# Altium schematic symbol library 10cx105.SchLib: 4 symbols (part 1 of 2)
Pins are listed as number, name and electrical type; pins without a type are passive.

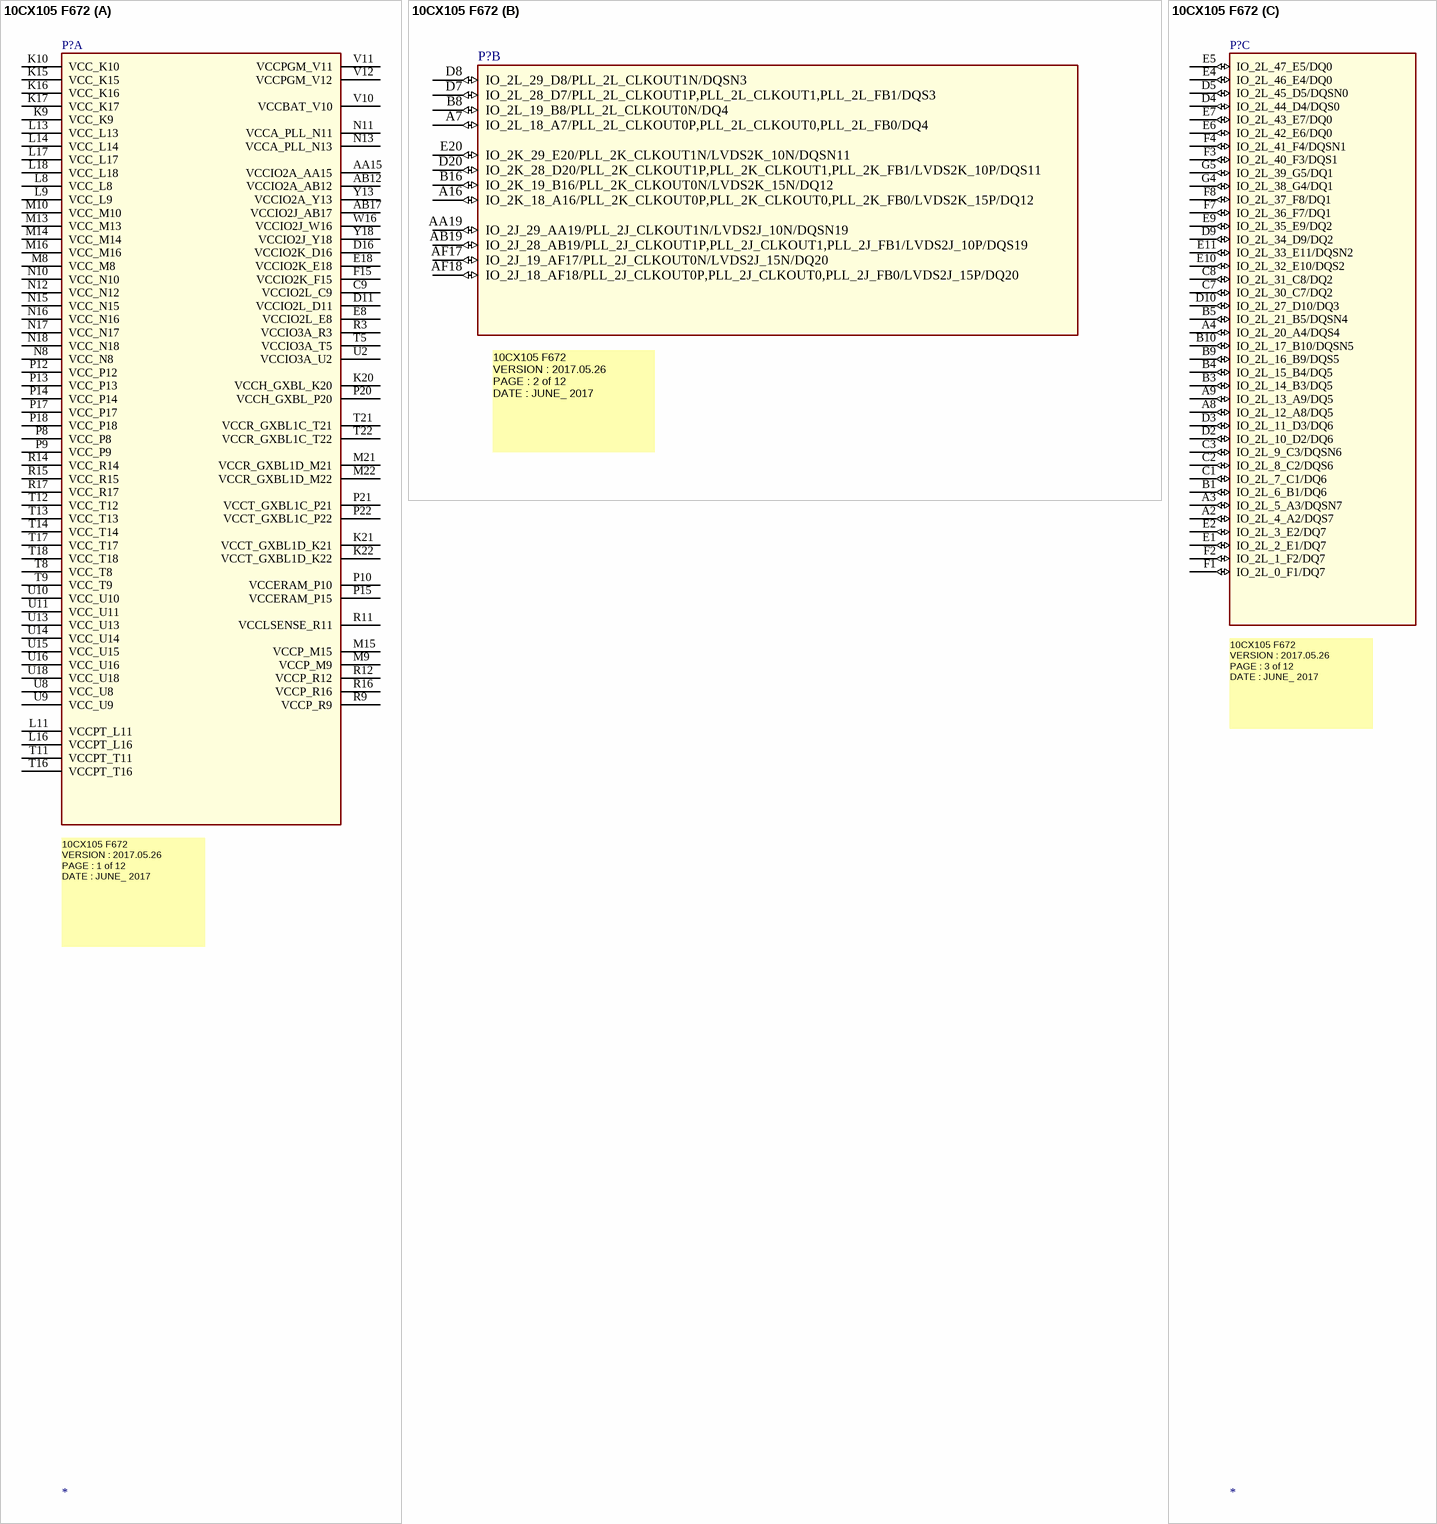
[diagram p0: symbol 10CX105 F672]

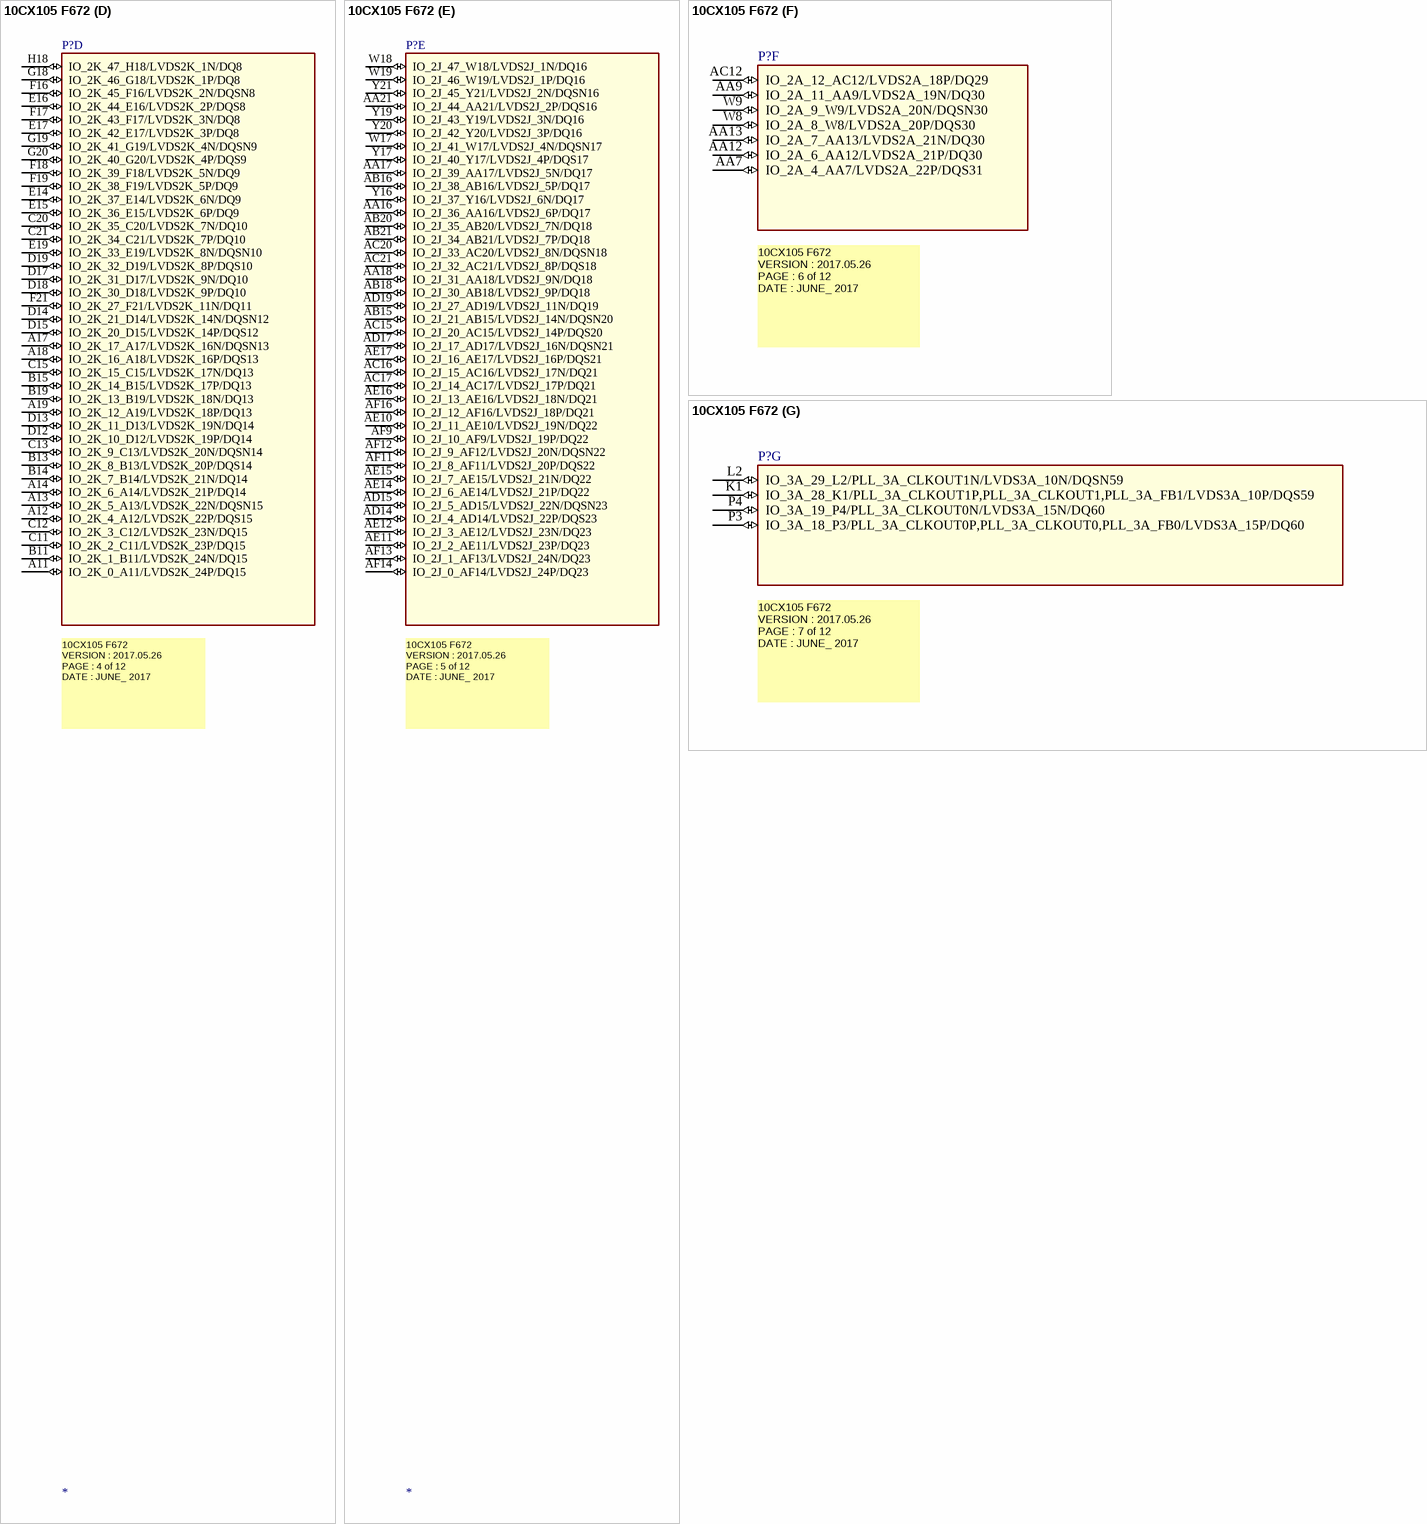
[diagram p1: symbol 10CX105 F672]

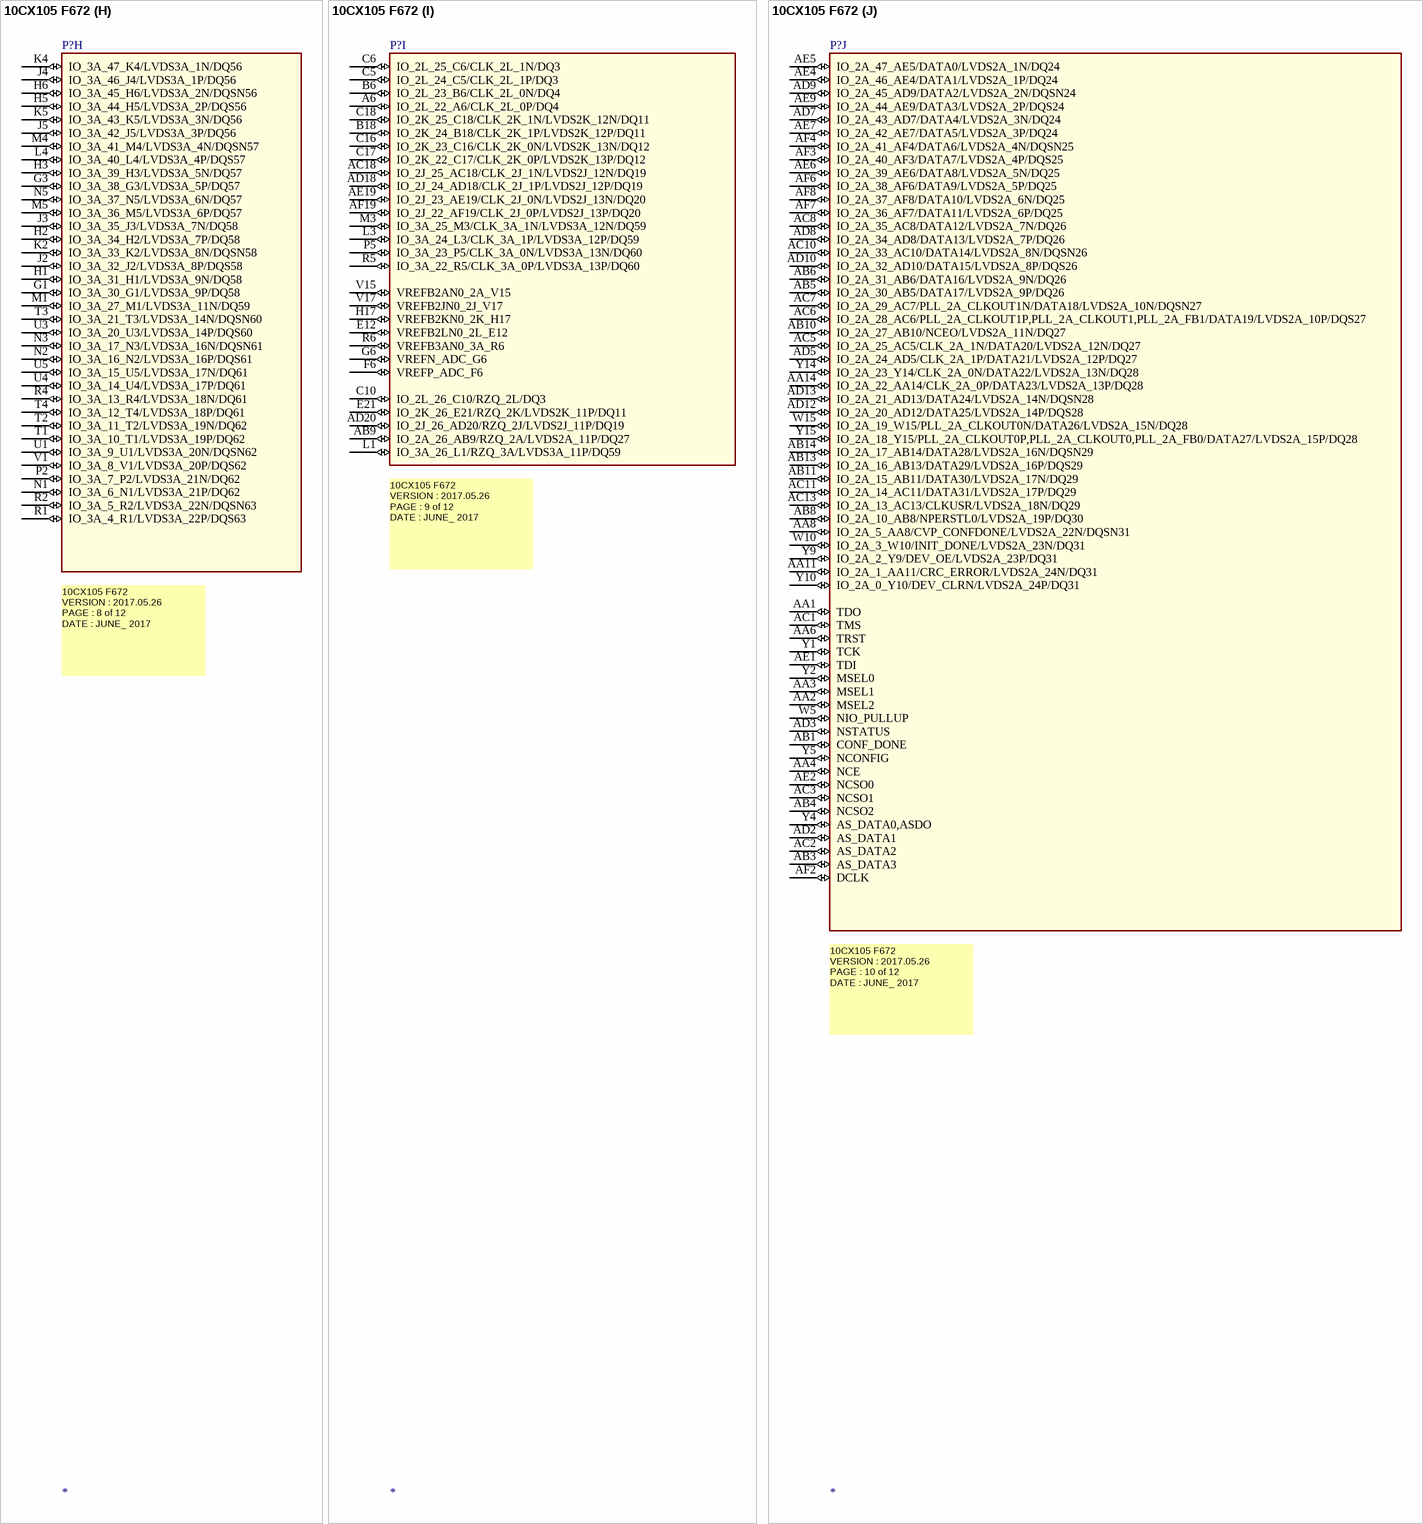
[diagram p2: symbol 10CX105 F672]

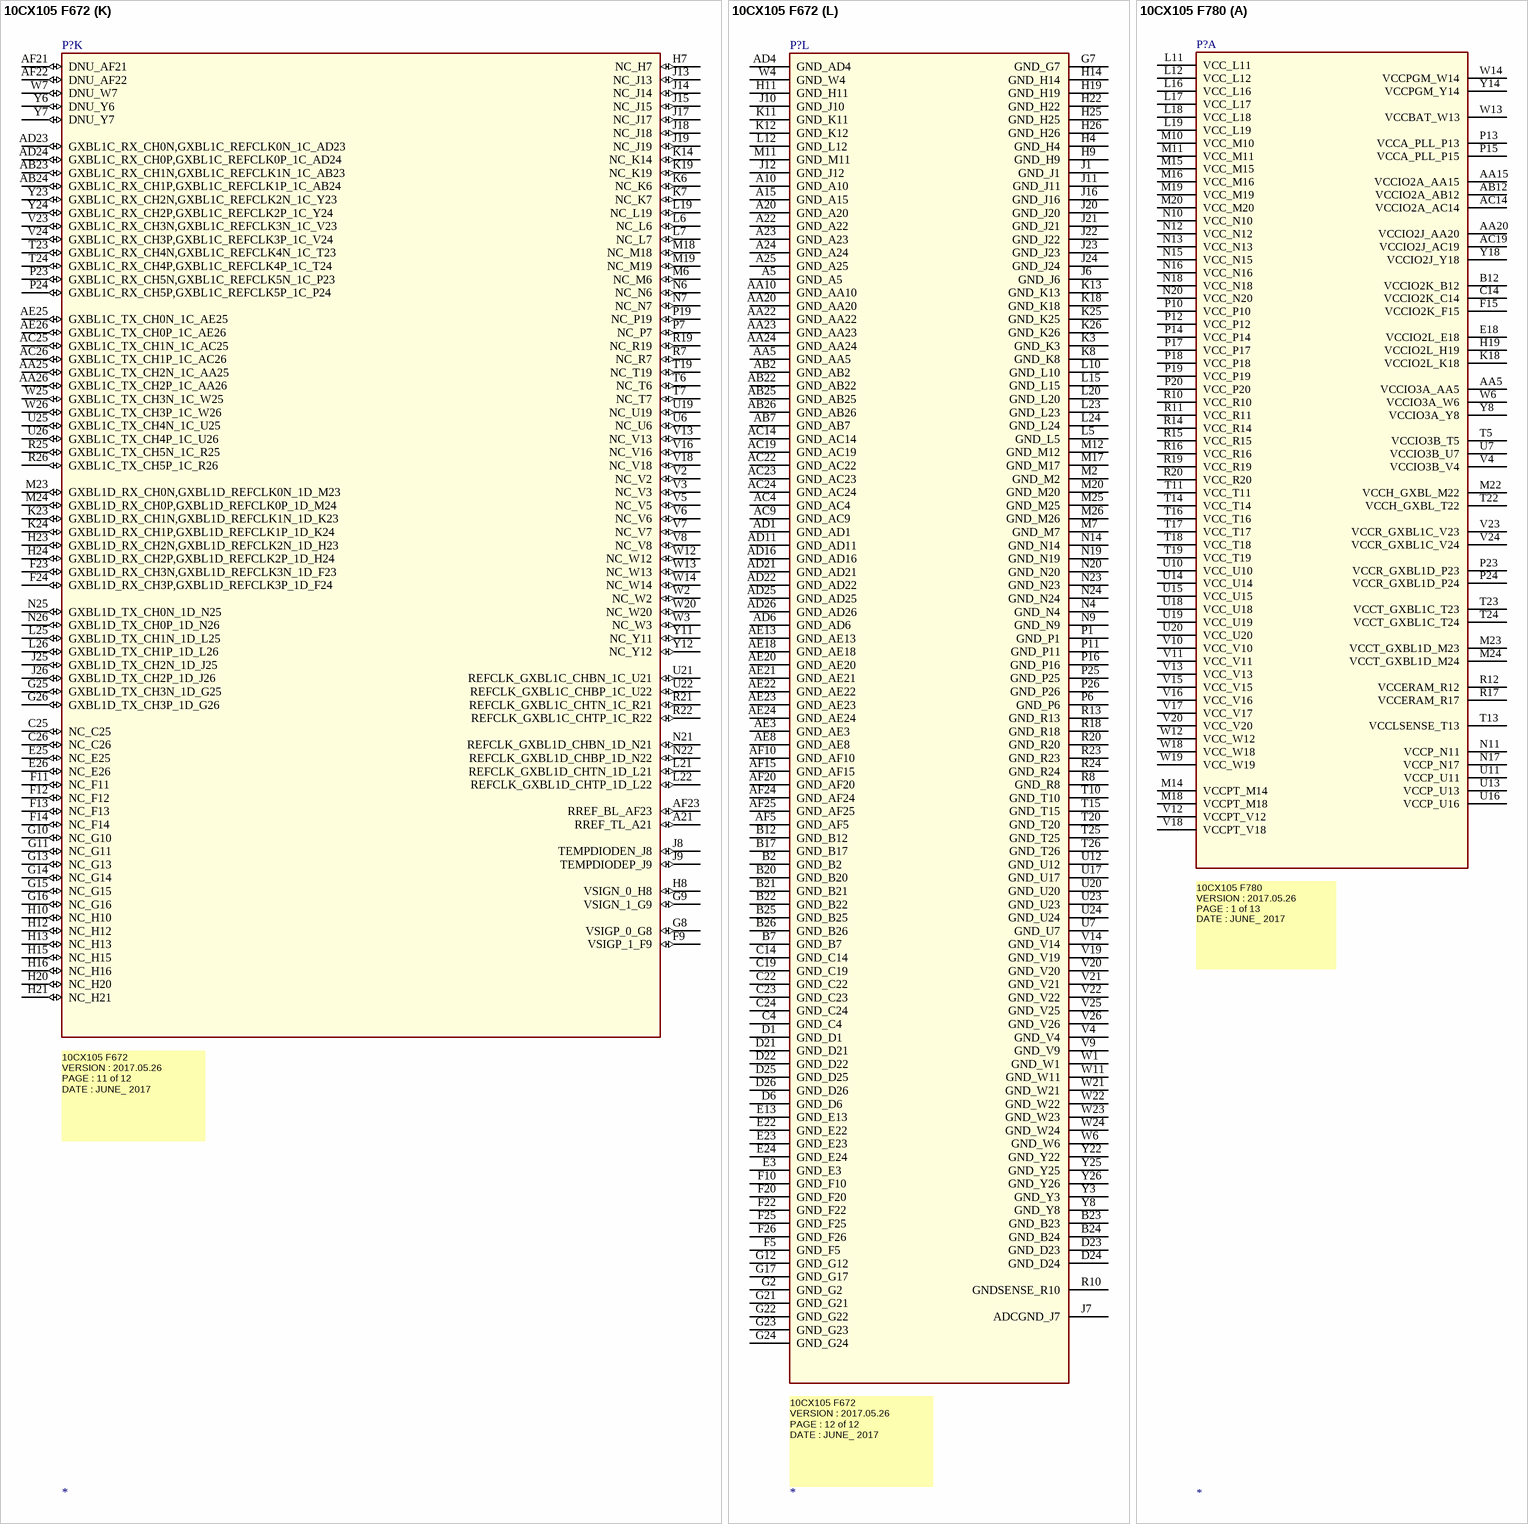
[diagram p3: symbols 10CX105 F672 to 10CX105 F780]

## 10CX105 F672
designator P?
SPLIT_INST: TRUE; SWAP_INFO: (S1+S2+S3+S4+S5+S6+S7+S8+S9+S10+S11+S12)
part A pins: AA15 VCCIO2A_AA15 (power), AB12 VCCIO2A_AB12 (power), AB17 VCCIO2J_AB17 (power), C9 VCCIO2L_C9 (power), D11 VCCIO2L_D11 (power), D16 VCCIO2K_D16 (power), E8 VCCIO2L_E8 (power), E18 VCCIO2K_E18 (power), F15 VCCIO2K_F15 (power), K9 VCC_K9 (power), K10 VCC_K10 (power), K15 VCC_K15 (power), K16 VCC_K16 (power), K17 VCC_K17 (power), K20 VCCH_GXBL_K20 (power), K21 VCCT_GXBL1D_K21 (power), K22 VCCT_GXBL1D_K22 (power), L8 VCC_L8 (power), L9 VCC_L9 (power), L11 VCCPT_L11 (power), L13 VCC_L13 (power), L14 VCC_L14 (power), L16 VCCPT_L16 (power), L17 VCC_L17 (power), L18 VCC_L18 (power), M8 VCC_M8 (power), M9 VCCP_M9 (power), M10 VCC_M10 (power), M13 VCC_M13 (power), M14 VCC_M14 (power), M15 VCCP_M15 (power), M16 VCC_M16 (power), M21 VCCR_GXBL1D_M21 (power), M22 VCCR_GXBL1D_M22 (power), N8 VCC_N8 (power), N10 VCC_N10 (power), N11 VCCA_PLL_N11 (power), N12 VCC_N12 (power), N13 VCCA_PLL_N13 (power), N15 VCC_N15 (power), N16 VCC_N16 (power), N17 VCC_N17 (power), N18 VCC_N18 (power), P8 VCC_P8 (power), P9 VCC_P9 (power), P10 VCCERAM_P10 (power), P12 VCC_P12 (power), P13 VCC_P13 (power), P14 VCC_P14 (power), P15 VCCERAM_P15 (power), P17 VCC_P17 (power), P18 VCC_P18 (power), P20 VCCH_GXBL_P20 (power), P21 VCCT_GXBL1C_P21 (power), P22 VCCT_GXBL1C_P22 (power), R3 VCCIO3A_R3 (power), R9 VCCP_R9 (power), R11 VCCLSENSE_R11 (power), R12 VCCP_R12 (power), R14 VCC_R14 (power), R15 VCC_R15 (power), R16 VCCP_R16 (power), R17 VCC_R17 (power), T5 VCCIO3A_T5 (power), T8 VCC_T8 (power), T9 VCC_T9 (power), T11 VCCPT_T11 (power), T12 VCC_T12 (power), T13 VCC_T13 (power), T14 VCC_T14 (power), T16 VCCPT_T16 (power), T17 VCC_T17 (power), T18 VCC_T18 (power), T21 VCCR_GXBL1C_T21 (power), T22 VCCR_GXBL1C_T22 (power), U2 VCCIO3A_U2 (power), U8 VCC_U8 (power), U9 VCC_U9 (power), U10 VCC_U10 (power), U11 VCC_U11 (power), U13 VCC_U13 (power), U14 VCC_U14 (power), U15 VCC_U15 (power), U16 VCC_U16 (power), U18 VCC_U18 (power), V10 VCCBAT_V10 (power), V11 VCCPGM_V11 (power), V12 VCCPGM_V12 (power), W16 VCCIO2J_W16 (power), Y13 VCCIO2A_Y13 (power), Y18 VCCIO2J_Y18 (power)
part B pins: A7 IO_2L_18_A7/PLL_2L_CLKOUT0P,PLL_2L_CLKOUT0,PLL_2L_FB0/DQ4 (io), A16 IO_2K_18_A16/PLL_2K_CLKOUT0P,PLL_2K_CLKOUT0,PLL_2K_FB0/LVDS2K_15P/DQ12 (io), AA19 IO_2J_29_AA19/PLL_2J_CLKOUT1N/LVDS2J_10N/DQSN19 (io), AB19 IO_2J_28_AB19/PLL_2J_CLKOUT1P,PLL_2J_CLKOUT1,PLL_2J_FB1/LVDS2J_10P/DQS19 (io), AF17 IO_2J_19_AF17/PLL_2J_CLKOUT0N/LVDS2J_15N/DQ20 (io), AF18 IO_2J_18_AF18/PLL_2J_CLKOUT0P,PLL_2J_CLKOUT0,PLL_2J_FB0/LVDS2J_15P/DQ20 (io), B8 IO_2L_19_B8/PLL_2L_CLKOUT0N/DQ4 (io), B16 IO_2K_19_B16/PLL_2K_CLKOUT0N/LVDS2K_15N/DQ12 (io), D7 IO_2L_28_D7/PLL_2L_CLKOUT1P,PLL_2L_CLKOUT1,PLL_2L_FB1/DQS3 (io), D8 IO_2L_29_D8/PLL_2L_CLKOUT1N/DQSN3 (io), D20 IO_2K_28_D20/PLL_2K_CLKOUT1P,PLL_2K_CLKOUT1,PLL_2K_FB1/LVDS2K_10P/DQS11 (io), E20 IO_2K_29_E20/PLL_2K_CLKOUT1N/LVDS2K_10N/DQSN11 (io)
part C pins: A2 IO_2L_4_A2/DQS7 (io), A3 IO_2L_5_A3/DQSN7 (io), A4 IO_2L_20_A4/DQS4 (io), A8 IO_2L_12_A8/DQ5 (io), A9 IO_2L_13_A9/DQ5 (io), B1 IO_2L_6_B1/DQ6 (io), B3 IO_2L_14_B3/DQ5 (io), B4 IO_2L_15_B4/DQ5 (io), B5 IO_2L_21_B5/DQSN4 (io), B9 IO_2L_16_B9/DQS5 (io), B10 IO_2L_17_B10/DQSN5 (io), C1 IO_2L_7_C1/DQ6 (io), C2 IO_2L_8_C2/DQS6 (io), C3 IO_2L_9_C3/DQSN6 (io), C7 IO_2L_30_C7/DQ2 (io), C8 IO_2L_31_C8/DQ2 (io), D2 IO_2L_10_D2/DQ6 (io), D3 IO_2L_11_D3/DQ6 (io), D4 IO_2L_44_D4/DQS0 (io), D5 IO_2L_45_D5/DQSN0 (io), D9 IO_2L_34_D9/DQ2 (io), D10 IO_2L_27_D10/DQ3 (io), E1 IO_2L_2_E1/DQ7 (io), E2 IO_2L_3_E2/DQ7 (io), E4 IO_2L_46_E4/DQ0 (io), E5 IO_2L_47_E5/DQ0 (io), E6 IO_2L_42_E6/DQ0 (io), E7 IO_2L_43_E7/DQ0 (io), E9 IO_2L_35_E9/DQ2 (io), E10 IO_2L_32_E10/DQS2 (io), E11 IO_2L_33_E11/DQSN2 (io), F1 IO_2L_0_F1/DQ7 (io), F2 IO_2L_1_F2/DQ7 (io), F3 IO_2L_40_F3/DQS1 (io), F4 IO_2L_41_F4/DQSN1 (io), F7 IO_2L_36_F7/DQ1 (io), F8 IO_2L_37_F8/DQ1 (io), G4 IO_2L_38_G4/DQ1 (io), G5 IO_2L_39_G5/DQ1 (io)
part D pins: A11 IO_2K_0_A11/LVDS2K_24P/DQ15 (io), A12 IO_2K_4_A12/LVDS2K_22P/DQS15 (io), A13 IO_2K_5_A13/LVDS2K_22N/DQSN15 (io), A14 IO_2K_6_A14/LVDS2K_21P/DQ14 (io), A17 IO_2K_17_A17/LVDS2K_16N/DQSN13 (io), A18 IO_2K_16_A18/LVDS2K_16P/DQS13 (io), A19 IO_2K_12_A19/LVDS2K_18P/DQ13 (io), B11 IO_2K_1_B11/LVDS2K_24N/DQ15 (io), B13 IO_2K_8_B13/LVDS2K_20P/DQS14 (io), B14 IO_2K_7_B14/LVDS2K_21N/DQ14 (io), B15 IO_2K_14_B15/LVDS2K_17P/DQ13 (io), B19 IO_2K_13_B19/LVDS2K_18N/DQ13 (io), C11 IO_2K_2_C11/LVDS2K_23P/DQ15 (io), C12 IO_2K_3_C12/LVDS2K_23N/DQ15 (io), C13 IO_2K_9_C13/LVDS2K_20N/DQSN14 (io), C15 IO_2K_15_C15/LVDS2K_17N/DQ13 (io), C20 IO_2K_35_C20/LVDS2K_7N/DQ10 (io), C21 IO_2K_34_C21/LVDS2K_7P/DQ10 (io), D12 IO_2K_10_D12/LVDS2K_19P/DQ14 (io), D13 IO_2K_11_D13/LVDS2K_19N/DQ14 (io), D14 IO_2K_21_D14/LVDS2K_14N/DQSN12 (io), D15 IO_2K_20_D15/LVDS2K_14P/DQS12 (io), D17 IO_2K_31_D17/LVDS2K_9N/DQ10 (io), D18 IO_2K_30_D18/LVDS2K_9P/DQ10 (io), D19 IO_2K_32_D19/LVDS2K_8P/DQS10 (io), E14 IO_2K_37_E14/LVDS2K_6N/DQ9 (io), E15 IO_2K_36_E15/LVDS2K_6P/DQ9 (io), E16 IO_2K_44_E16/LVDS2K_2P/DQS8 (io), E17 IO_2K_42_E17/LVDS2K_3P/DQ8 (io), E19 IO_2K_33_E19/LVDS2K_8N/DQSN10 (io), F16 IO_2K_45_F16/LVDS2K_2N/DQSN8 (io), F17 IO_2K_43_F17/LVDS2K_3N/DQ8 (io), F18 IO_2K_39_F18/LVDS2K_5N/DQ9 (io), F19 IO_2K_38_F19/LVDS2K_5P/DQ9 (io), F21 IO_2K_27_F21/LVDS2K_11N/DQ11 (io), G18 IO_2K_46_G18/LVDS2K_1P/DQ8 (io), G19 IO_2K_41_G19/LVDS2K_4N/DQSN9 (io), G20 IO_2K_40_G20/LVDS2K_4P/DQS9 (io), H18 IO_2K_47_H18/LVDS2K_1N/DQ8 (io)
part E pins: AA16 IO_2J_36_AA16/LVDS2J_6P/DQ17 (io), AA17 IO_2J_39_AA17/LVDS2J_5N/DQ17 (io), AA18 IO_2J_31_AA18/LVDS2J_9N/DQ18 (io), AA21 IO_2J_44_AA21/LVDS2J_2P/DQS16 (io), AB15 IO_2J_21_AB15/LVDS2J_14N/DQSN20 (io), AB16 IO_2J_38_AB16/LVDS2J_5P/DQ17 (io), AB18 IO_2J_30_AB18/LVDS2J_9P/DQ18 (io), AB20 IO_2J_35_AB20/LVDS2J_7N/DQ18 (io), AB21 IO_2J_34_AB21/LVDS2J_7P/DQ18 (io), AC15 IO_2J_20_AC15/LVDS2J_14P/DQS20 (io), AC16 IO_2J_15_AC16/LVDS2J_17N/DQ21 (io), AC17 IO_2J_14_AC17/LVDS2J_17P/DQ21 (io), AC20 IO_2J_33_AC20/LVDS2J_8N/DQSN18 (io), AC21 IO_2J_32_AC21/LVDS2J_8P/DQS18 (io), AD14 IO_2J_4_AD14/LVDS2J_22P/DQS23 (io), AD15 IO_2J_5_AD15/LVDS2J_22N/DQSN23 (io), AD17 IO_2J_17_AD17/LVDS2J_16N/DQSN21 (io), AD19 IO_2J_27_AD19/LVDS2J_11N/DQ19 (io), AE10 IO_2J_11_AE10/LVDS2J_19N/DQ22 (io), AE11 IO_2J_2_AE11/LVDS2J_23P/DQ23 (io), AE12 IO_2J_3_AE12/LVDS2J_23N/DQ23 (io), AE14 IO_2J_6_AE14/LVDS2J_21P/DQ22 (io), AE15 IO_2J_7_AE15/LVDS2J_21N/DQ22 (io), AE16 IO_2J_13_AE16/LVDS2J_18N/DQ21 (io), AE17 IO_2J_16_AE17/LVDS2J_16P/DQS21 (io), AF9 IO_2J_10_AF9/LVDS2J_19P/DQ22 (io), AF11 IO_2J_8_AF11/LVDS2J_20P/DQS22 (io), AF12 IO_2J_9_AF12/LVDS2J_20N/DQSN22 (io), AF13 IO_2J_1_AF13/LVDS2J_24N/DQ23 (io), AF14 IO_2J_0_AF14/LVDS2J_24P/DQ23 (io), AF16 IO_2J_12_AF16/LVDS2J_18P/DQ21 (io), W17 IO_2J_41_W17/LVDS2J_4N/DQSN17 (io), W18 IO_2J_47_W18/LVDS2J_1N/DQ16 (io), W19 IO_2J_46_W19/LVDS2J_1P/DQ16 (io), Y16 IO_2J_37_Y16/LVDS2J_6N/DQ17 (io), Y17 IO_2J_40_Y17/LVDS2J_4P/DQS17 (io), Y19 IO_2J_43_Y19/LVDS2J_3N/DQ16 (io), Y20 IO_2J_42_Y20/LVDS2J_3P/DQ16 (io), Y21 IO_2J_45_Y21/LVDS2J_2N/DQSN16 (io)
part F pins: AA7 IO_2A_4_AA7/LVDS2A_22P/DQS31 (io), AA9 IO_2A_11_AA9/LVDS2A_19N/DQ30 (io), AA12 IO_2A_6_AA12/LVDS2A_21P/DQ30 (io), AA13 IO_2A_7_AA13/LVDS2A_21N/DQ30 (io), AC12 IO_2A_12_AC12/LVDS2A_18P/DQ29 (io), W8 IO_2A_8_W8/LVDS2A_20P/DQS30 (io), W9 IO_2A_9_W9/LVDS2A_20N/DQSN30 (io)
part G pins: K1 IO_3A_28_K1/PLL_3A_CLKOUT1P,PLL_3A_CLKOUT1,PLL_3A_FB1/LVDS3A_10P/DQS59 (io), L2 IO_3A_29_L2/PLL_3A_CLKOUT1N/LVDS3A_10N/DQSN59 (io), P3 IO_3A_18_P3/PLL_3A_CLKOUT0P,PLL_3A_CLKOUT0,PLL_3A_FB0/LVDS3A_15P/DQ60 (io), P4 IO_3A_19_P4/PLL_3A_CLKOUT0N/LVDS3A_15N/DQ60 (io)
part H pins: G1 IO_3A_30_G1/LVDS3A_9P/DQ58 (io), G3 IO_3A_38_G3/LVDS3A_5P/DQ57 (io), H1 IO_3A_31_H1/LVDS3A_9N/DQ58 (io), H2 IO_3A_34_H2/LVDS3A_7P/DQ58 (io), H3 IO_3A_39_H3/LVDS3A_5N/DQ57 (io), H5 IO_3A_44_H5/LVDS3A_2P/DQS56 (io), H6 IO_3A_45_H6/LVDS3A_2N/DQSN56 (io), J2 IO_3A_32_J2/LVDS3A_8P/DQS58 (io), J3 IO_3A_35_J3/LVDS3A_7N/DQ58 (io), J4 IO_3A_46_J4/LVDS3A_1P/DQ56 (io), J5 IO_3A_42_J5/LVDS3A_3P/DQ56 (io), K2 IO_3A_33_K2/LVDS3A_8N/DQSN58 (io), K4 IO_3A_47_K4/LVDS3A_1N/DQ56 (io), K5 IO_3A_43_K5/LVDS3A_3N/DQ56 (io), L4 IO_3A_40_L4/LVDS3A_4P/DQS57 (io), M1 IO_3A_27_M1/LVDS3A_11N/DQ59 (io), M4 IO_3A_41_M4/LVDS3A_4N/DQSN57 (io), M5 IO_3A_36_M5/LVDS3A_6P/DQ57 (io), N1 IO_3A_6_N1/LVDS3A_21P/DQ62 (io), N2 IO_3A_16_N2/LVDS3A_16P/DQS61 (io), N3 IO_3A_17_N3/LVDS3A_16N/DQSN61 (io), N5 IO_3A_37_N5/LVDS3A_6N/DQ57 (io), P2 IO_3A_7_P2/LVDS3A_21N/DQ62 (io), R1 IO_3A_4_R1/LVDS3A_22P/DQS63 (io), R2 IO_3A_5_R2/LVDS3A_22N/DQSN63 (io), R4 IO_3A_13_R4/LVDS3A_18N/DQ61 (io), T1 IO_3A_10_T1/LVDS3A_19P/DQ62 (io), T2 IO_3A_11_T2/LVDS3A_19N/DQ62 (io), T3 IO_3A_21_T3/LVDS3A_14N/DQSN60 (io), T4 IO_3A_12_T4/LVDS3A_18P/DQ61 (io), U1 IO_3A_9_U1/LVDS3A_20N/DQSN62 (io), U3 IO_3A_20_U3/LVDS3A_14P/DQS60 (io), U4 IO_3A_14_U4/LVDS3A_17P/DQ61 (io), U5 IO_3A_15_U5/LVDS3A_17N/DQ61 (io), V1 IO_3A_8_V1/LVDS3A_20P/DQS62 (io)
part I pins: A6 IO_2L_22_A6/CLK_2L_0P/DQ4 (io), AB9 IO_2A_26_AB9/RZQ_2A/LVDS2A_11P/DQ27 (io), AC18 IO_2J_25_AC18/CLK_2J_1N/LVDS2J_12N/DQ19 (io), AD18 IO_2J_24_AD18/CLK_2J_1P/LVDS2J_12P/DQ19 (io), AD20 IO_2J_26_AD20/RZQ_2J/LVDS2J_11P/DQ19 (io), AE19 IO_2J_23_AE19/CLK_2J_0N/LVDS2J_13N/DQ20 (io), AF19 IO_2J_22_AF19/CLK_2J_0P/LVDS2J_13P/DQ20 (io), B6 IO_2L_23_B6/CLK_2L_0N/DQ4 (io), B18 IO_2K_24_B18/CLK_2K_1P/LVDS2K_12P/DQ11 (io), C5 IO_2L_24_C5/CLK_2L_1P/DQ3 (io), C6 IO_2L_25_C6/CLK_2L_1N/DQ3 (io), C10 IO_2L_26_C10/RZQ_2L/DQ3 (io), C16 IO_2K_23_C16/CLK_2K_0N/LVDS2K_13N/DQ12 (io), C17 IO_2K_22_C17/CLK_2K_0P/LVDS2K_13P/DQ12 (io), C18 IO_2K_25_C18/CLK_2K_1N/LVDS2K_12N/DQ11 (io), E12 VREFB2LN0_2L_E12 (io), E21 IO_2K_26_E21/RZQ_2K/LVDS2K_11P/DQ11 (io), F6 VREFP_ADC_F6 (io), G6 VREFN_ADC_G6 (io), H17 VREFB2KN0_2K_H17 (io), L1 IO_3A_26_L1/RZQ_3A/LVDS3A_11P/DQ59 (io), L3 IO_3A_24_L3/CLK_3A_1P/LVDS3A_12P/DQ59 (io), M3 IO_3A_25_M3/CLK_3A_1N/LVDS3A_12N/DQ59 (io), P5 IO_3A_23_P5/CLK_3A_0N/LVDS3A_13N/DQ60 (io), R5 IO_3A_22_R5/CLK_3A_0P/LVDS3A_13P/DQ60 (io), R6 VREFB3AN0_3A_R6 (io), V15 VREFB2AN0_2A_V15 (io), V17 VREFB2JN0_2J_V17 (io)
part J pins: AA1 TDO (io), AA2 MSEL2 (io), AA3 MSEL1 (io), AA4 NCE (io), AA6 TRST (io), AA8 IO_2A_5_AA8/CVP_CONFDONE/LVDS2A_22N/DQSN31 (io), AA11 IO_2A_1_AA11/CRC_ERROR/LVDS2A_24N/DQ31 (io), AA14 IO_2A_22_AA14/CLK_2A_0P/DATA23/LVDS2A_13P/DQ28 (io), AB1 CONF_DONE (io), AB3 AS_DATA3 (io), AB4 NCSO2 (io), AB5 IO_2A_30_AB5/DATA17/LVDS2A_9P/DQ26 (io), AB6 IO_2A_31_AB6/DATA16/LVDS2A_9N/DQ26 (io), AB8 IO_2A_10_AB8/NPERSTL0/LVDS2A_19P/DQ30 (io), AB10 IO_2A_27_AB10/NCEO/LVDS2A_11N/DQ27 (io), AB11 IO_2A_15_AB11/DATA30/LVDS2A_17N/DQ29 (io), AB13 IO_2A_16_AB13/DATA29/LVDS2A_16P/DQS29 (io), AB14 IO_2A_17_AB14/DATA28/LVDS2A_16N/DQSN29 (io), AC1 TMS (io), AC2 AS_DATA2 (io), AC3 NCSO1 (io), AC5 IO_2A_25_AC5/CLK_2A_1N/DATA20/LVDS2A_12N/DQ27 (io), AC6 IO_2A_28_AC6/PLL_2A_CLKOUT1P,PLL_2A_CLKOUT1,PLL_2A_FB1/DATA19/LVDS2A_10P/DQS27 (io), AC7 IO_2A_29_AC7/PLL_2A_CLKOUT1N/DATA18/LVDS2A_10N/DQSN27 (io), AC8 IO_2A_35_AC8/DATA12/LVDS2A_7N/DQ26 (io), AC10 IO_2A_33_AC10/DATA14/LVDS2A_8N/DQSN26 (io), AC11 IO_2A_14_AC11/DATA31/LVDS2A_17P/DQ29 (io), AC13 IO_2A_13_AC13/CLKUSR/LVDS2A_18N/DQ29 (io), AD2 AS_DATA1 (io), AD3 NSTATUS (io), AD5 IO_2A_24_AD5/CLK_2A_1P/DATA21/LVDS2A_12P/DQ27 (io), AD7 IO_2A_43_AD7/DATA4/LVDS2A_3N/DQ24 (io), AD8 IO_2A_34_AD8/DATA13/LVDS2A_7P/DQ26 (io), AD9 IO_2A_45_AD9/DATA2/LVDS2A_2N/DQSN24 (io), AD10 IO_2A_32_AD10/DATA15/LVDS2A_8P/DQS26 (io), AD12 IO_2A_20_AD12/DATA25/LVDS2A_14P/DQS28 (io), AD13 IO_2A_21_AD13/DATA24/LVDS2A_14N/DQSN28 (io), AE1 TDI (io), AE2 NCSO0 (io), AE4 IO_2A_46_AE4/DATA1/LVDS2A_1P/DQ24 (io), AE5 IO_2A_47_AE5/DATA0/LVDS2A_1N/DQ24 (io), AE6 IO_2A_39_AE6/DATA8/LVDS2A_5N/DQ25 (io), AE7 IO_2A_42_AE7/DATA5/LVDS2A_3P/DQ24 (io), AE9 IO_2A_44_AE9/DATA3/LVDS2A_2P/DQS24 (io), AF2 DCLK (io), AF3 IO_2A_40_AF3/DATA7/LVDS2A_4P/DQS25 (io), AF4 IO_2A_41_AF4/DATA6/LVDS2A_4N/DQSN25 (io), AF6 IO_2A_38_AF6/DATA9/LVDS2A_5P/DQ25 (io), AF7 IO_2A_36_AF7/DATA11/LVDS2A_6P/DQ25 (io), AF8 IO_2A_37_AF8/DATA10/LVDS2A_6N/DQ25 (io), W5 NIO_PULLUP (io), W10 IO_2A_3_W10/INIT_DONE/LVDS2A_23N/DQ31 (io), W15 IO_2A_19_W15/PLL_2A_CLKOUT0N/DATA26/LVDS2A_15N/DQ28 (io), Y1 TCK (io), Y2 MSEL0 (io), Y4 AS_DATA0,ASDO (io), Y5 NCONFIG (io), Y9 IO_2A_2_Y9/DEV_OE/LVDS2A_23P/DQ31 (io), Y10 IO_2A_0_Y10/DEV_CLRN/LVDS2A_24P/DQ31 (io), Y14 IO_2A_23_Y14/CLK_2A_0N/DATA22/LVDS2A_13N/DQ28 (io), Y15 IO_2A_18_Y15/PLL_2A_CLKOUT0P,PLL_2A_CLKOUT0,PLL_2A_FB0/DATA27/LVDS2A_15P/DQ28 (io)
part K pins: A21 RREF_TL_A21 (io), AA25 GXBL1C_TX_CH2N_1C_AA25 (io), AA26 GXBL1C_TX_CH2P_1C_AA26 (io), AB23 GXBL1C_RX_CH1N,GXBL1C_REFCLK1N_1C_AB23 (io), AB24 GXBL1C_RX_CH1P,GXBL1C_REFCLK1P_1C_AB24 (io), AC25 GXBL1C_TX_CH1N_1C_AC25 (io), AC26 GXBL1C_TX_CH1P_1C_AC26 (io), AD23 GXBL1C_RX_CH0N,GXBL1C_REFCLK0N_1C_AD23 (io), AD24 GXBL1C_RX_CH0P,GXBL1C_REFCLK0P_1C_AD24 (io), AE25 GXBL1C_TX_CH0N_1C_AE25 (io), AE26 GXBL1C_TX_CH0P_1C_AE26 (io), AF21 DNU_AF21 (io), AF22 DNU_AF22 (io), AF23 RREF_BL_AF23 (io), C25 NC_C25 (io), C26 NC_C26 (io), E25 NC_E25 (io), E26 NC_E26 (io), F9 VSIGP_1_F9 (io), F11 NC_F11 (io), F12 NC_F12 (io), F13 NC_F13 (io), F14 NC_F14 (io), F23 GXBL1D_RX_CH3N,GXBL1D_REFCLK3N_1D_F23 (io), F24 GXBL1D_RX_CH3P,GXBL1D_REFCLK3P_1D_F24 (io), G8 VSIGP_0_G8 (io), G9 VSIGN_1_G9 (io), G10 NC_G10 (io), G11 NC_G11 (io), G13 NC_G13 (io), G14 NC_G14 (io), G15 NC_G15 (io), G16 NC_G16 (io), G25 GXBL1D_TX_CH3N_1D_G25 (io), G26 GXBL1D_TX_CH3P_1D_G26 (io), H7 NC_H7 (io), H8 VSIGN_0_H8 (io), H10 NC_H10 (io), H12 NC_H12 (io), H13 NC_H13 (io), H15 NC_H15 (io), H16 NC_H16 (io), H20 NC_H20 (io), H21 NC_H21 (io), H23 GXBL1D_RX_CH2N,GXBL1D_REFCLK2N_1D_H23 (io), H24 GXBL1D_RX_CH2P,GXBL1D_REFCLK2P_1D_H24 (io), J8 TEMPDIODEN_J8 (io), J9 TEMPDIODEP_J9 (io), J13 NC_J13 (io), J14 NC_J14 (io), J15 NC_J15 (io), J17 NC_J17 (io), J18 NC_J18 (io), J19 NC_J19 (io), J25 GXBL1D_TX_CH2N_1D_J25 (io), J26 GXBL1D_TX_CH2P_1D_J26 (io), K6 NC_K6 (io), K7 NC_K7 (io), K14 NC_K14 (io), K19 NC_K19 (io), K23 GXBL1D_RX_CH1N,GXBL1D_REFCLK1N_1D_K23 (io), K24 GXBL1D_RX_CH1P,GXBL1D_REFCLK1P_1D_K24 (io), L6 NC_L6 (io), L7 NC_L7 (io), L19 NC_L19 (io), L21 REFCLK_GXBL1D_CHTN_1D_L21 (io), L22 REFCLK_GXBL1D_CHTP_1D_L22 (io), L25 GXBL1D_TX_CH1N_1D_L25 (io), L26 GXBL1D_TX_CH1P_1D_L26 (io), M6 NC_M6 (io), M18 NC_M18 (io), M19 NC_M19 (io), M23 GXBL1D_RX_CH0N,GXBL1D_REFCLK0N_1D_M23 (io), M24 GXBL1D_RX_CH0P,GXBL1D_REFCLK0P_1D_M24 (io), N6 NC_N6 (io), N7 NC_N7 (io), N21 REFCLK_GXBL1D_CHBN_1D_N21 (io), N22 REFCLK_GXBL1D_CHBP_1D_N22 (io), N25 GXBL1D_TX_CH0N_1D_N25 (io), N26 GXBL1D_TX_CH0P_1D_N26 (io), P7 NC_P7 (io), P19 NC_P19 (io), P23 GXBL1C_RX_CH5N,GXBL1C_REFCLK5N_1C_P23 (io), P24 GXBL1C_RX_CH5P,GXBL1C_REFCLK5P_1C_P24 (io), R7 NC_R7 (io), R19 NC_R19 (io), R21 REFCLK_GXBL1C_CHTN_1C_R21 (io), R22 REFCLK_GXBL1C_CHTP_1C_R22 (io), R25 GXBL1C_TX_CH5N_1C_R25 (io), R26 GXBL1C_TX_CH5P_1C_R26 (io), T6 NC_T6 (io), T7 NC_T7 (io), T19 NC_T19 (io), T23 GXBL1C_RX_CH4N,GXBL1C_REFCLK4N_1C_T23 (io), T24 GXBL1C_RX_CH4P,GXBL1C_REFCLK4P_1C_T24 (io), U6 NC_U6 (io), U19 NC_U19 (io), U21 REFCLK_GXBL1C_CHBN_1C_U21 (io), U22 REFCLK_GXBL1C_CHBP_1C_U22 (io), U25 GXBL1C_TX_CH4N_1C_U25 (io), U26 GXBL1C_TX_CH4P_1C_U26 (io), V2 NC_V2 (io), V3 NC_V3 (io), V5 NC_V5 (io), V6 NC_V6 (io), V7 NC_V7 (io), V8 NC_V8 (io), V13 NC_V13 (io), V16 NC_V16 (io), V18 NC_V18 (io), V23 GXBL1C_RX_CH3N,GXBL1C_REFCLK3N_1C_V23 (io), V24 GXBL1C_RX_CH3P,GXBL1C_REFCLK3P_1C_V24 (io), W2 NC_W2 (io), W3 NC_W3 (io), W7 DNU_W7 (io), W12 NC_W12 (io), W13 NC_W13 (io), W14 NC_W14 (io), W20 NC_W20 (io), W25 GXBL1C_TX_CH3N_1C_W25 (io), W26 GXBL1C_TX_CH3P_1C_W26 (io), Y6 DNU_Y6 (io), Y7 DNU_Y7 (io), Y11 NC_Y11 (io), Y12 NC_Y12 (io), Y23 GXBL1C_RX_CH2N,GXBL1C_REFCLK2N_1C_Y23 (io), Y24 GXBL1C_RX_CH2P,GXBL1C_REFCLK2P_1C_Y24 (io)
part L pins: A5 GND_A5 (power), A10 GND_A10 (power), A15 GND_A15 (power), A20 GND_A20 (power), A22 GND_A22 (power), A23 GND_A23 (power), A24 GND_A24 (power), A25 GND_A25 (power), AA5 GND_AA5 (power), AA10 GND_AA10 (power), AA20 GND_AA20 (power), AA22 GND_AA22 (power), AA23 GND_AA23 (power), AA24 GND_AA24 (power), AB2 GND_AB2 (power), AB7 GND_AB7 (power), AB22 GND_AB22 (power), AB25 GND_AB25 (power), AB26 GND_AB26 (power), AC4 GND_AC4 (power), AC9 GND_AC9 (power), AC14 GND_AC14 (power), AC19 GND_AC19 (power), AC22 GND_AC22 (power), AC23 GND_AC23 (power), AC24 GND_AC24 (power), AD1 GND_AD1 (power), AD4 GND_AD4 (power), AD6 GND_AD6 (power), AD11 GND_AD11 (power), AD16 GND_AD16 (power), AD21 GND_AD21 (power), AD22 GND_AD22 (power), AD25 GND_AD25 (power), AD26 GND_AD26 (power), AE3 GND_AE3 (power), AE8 GND_AE8 (power), AE13 GND_AE13 (power), AE18 GND_AE18 (power), AE20 GND_AE20 (power), AE21 GND_AE21 (power), AE22 GND_AE22 (power), AE23 GND_AE23 (power), AE24 GND_AE24 (power), AF5 GND_AF5 (power), AF10 GND_AF10 (power), AF15 GND_AF15 (power), AF20 GND_AF20 (power), AF24 GND_AF24 (power), AF25 GND_AF25 (power), B2 GND_B2 (power), B7 GND_B7 (power), B12 GND_B12 (power), B17 GND_B17 (power), B20 GND_B20 (power), B21 GND_B21 (power), B22 GND_B22 (power), B23 GND_B23 (power), B24 GND_B24 (power), B25 GND_B25 (power), B26 GND_B26 (power), C4 GND_C4 (power), C14 GND_C14 (power), C19 GND_C19 (power), C22 GND_C22 (power), C23 GND_C23 (power), C24 GND_C24 (power), D1 GND_D1 (power), D6 GND_D6 (power), D21 GND_D21 (power), D22 GND_D22 (power), D23 GND_D23 (power), D24 GND_D24 (power), D25 GND_D25 (power), D26 GND_D26 (power), E3 GND_E3 (power), E13 GND_E13 (power), E22 GND_E22 (power), E23 GND_E23 (power), E24 GND_E24 (power), F5 GND_F5 (power), F10 GND_F10 (power), F20 GND_F20 (power), F22 GND_F22 (power), F25 GND_F25 (power), F26 GND_F26 (power), G2 GND_G2 (power), G7 GND_G7 (power), G12 GND_G12 (power), G17 GND_G17 (power), G21 GND_G21 (power), G22 GND_G22 (power), G23 GND_G23 (power), G24 GND_G24 (power), H4 GND_H4 (power), H9 GND_H9 (power), H11 GND_H11 (power), H14 GND_H14 (power), H19 GND_H19 (power), H22 GND_H22 (power), H25 GND_H25 (power), H26 GND_H26 (power), J1 GND_J1 (power), J6 GND_J6 (power), J7 ADCGND_J7 (power), J10 GND_J10 (power), J11 GND_J11 (power), J12 GND_J12 (power), J16 GND_J16 (power), J20 GND_J20 (power), J21 GND_J21 (power), J22 GND_J22 (power), J23 GND_J23 (power), J24 GND_J24 (power), K3 GND_K3 (power), K8 GND_K8 (power), K11 GND_K11 (power), K12 GND_K12 (power), K13 GND_K13 (power), K18 GND_K18 (power), K25 GND_K25 (power), K26 GND_K26 (power), L5 GND_L5 (power), L10 GND_L10 (power), L12 GND_L12 (power), L15 GND_L15 (power), L20 GND_L20 (power), L23 GND_L23 (power), L24 GND_L24 (power), M2 GND_M2 (power), M7 GND_M7 (power), M11 GND_M11 (power), M12 GND_M12 (power), M17 GND_M17 (power), M20 GND_M20 (power), M25 GND_M25 (power), M26 GND_M26 (power), N4 GND_N4 (power), N9 GND_N9 (power), N14 GND_N14 (power), N19 GND_N19 (power), N20 GND_N20 (power), N23 GND_N23 (power), N24 GND_N24 (power), P1 GND_P1 (power), P6 GND_P6 (power), P11 GND_P11 (power), P16 GND_P16 (power), P25 GND_P25 (power), P26 GND_P26 (power), R8 GND_R8 (power), R10 GNDSENSE_R10 (power), R13 GND_R13 (power), R18 GND_R18 (power), R20 GND_R20 (power), R23 GND_R23 (power), R24 GND_R24 (power), T10 GND_T10 (power), T15 GND_T15 (power), T20 GND_T20 (power), T25 GND_T25 (power), T26 GND_T26 (power), U7 GND_U7 (power), U12 GND_U12 (power), U17 GND_U17 (power), U20 GND_U20 (power), U23 GND_U23 (power), U24 GND_U24 (power), V4 GND_V4 (power), V9 GND_V9 (power), V14 GND_V14 (power), V19 GND_V19 (power), V20 GND_V20 (power), V21 GND_V21 (power), V22 GND_V22 (power), V25 GND_V25 (power), V26 GND_V26 (power), W1 GND_W1 (power), W4 GND_W4 (power), W6 GND_W6 (power), W11 GND_W11 (power), W21 GND_W21 (power), W22 GND_W22 (power), W23 GND_W23 (power), W24 GND_W24 (power), Y3 GND_Y3 (power), Y8 GND_Y8 (power), Y22 GND_Y22 (power), Y25 GND_Y25 (power), Y26 GND_Y26 (power)
part A text: 10CX105 F672 / VERSION : 2017.05.26 / PAGE : 1 of 12 / DATE : JUNE_ 2017 /
part B text: 10CX105 F672 / VERSION : 2017.05.26 / PAGE : 2 of 12 / DATE : JUNE_ 2017 /
part C text: 10CX105 F672 / VERSION : 2017.05.26 / PAGE : 3 of 12 / DATE : JUNE_ 2017 /
part D text: 10CX105 F672 / VERSION : 2017.05.26 / PAGE : 4 of 12 / DATE : JUNE_ 2017 /
part E text: 10CX105 F672 / VERSION : 2017.05.26 / PAGE : 5 of 12 / DATE : JUNE_ 2017 /
part F text: 10CX105 F672 / VERSION : 2017.05.26 / PAGE : 6 of 12 / DATE : JUNE_ 2017 /
part G text: 10CX105 F672 / VERSION : 2017.05.26 / PAGE : 7 of 12 / DATE : JUNE_ 2017 /
part H text: 10CX105 F672 / VERSION : 2017.05.26 / PAGE : 8 of 12 / DATE : JUNE_ 2017 /
part I text: 10CX105 F672 / VERSION : 2017.05.26 / PAGE : 9 of 12 / DATE : JUNE_ 2017 /
part J text: 10CX105 F672 / VERSION : 2017.05.26 / PAGE : 10 of 12 / DATE : JUNE_ 2017 /
part K text: 10CX105 F672 / VERSION : 2017.05.26 / PAGE : 11 of 12 / DATE : JUNE_ 2017 /
part L text: 10CX105 F672 / VERSION : 2017.05.26 / PAGE : 12 of 12 / DATE : JUNE_ 2017 /

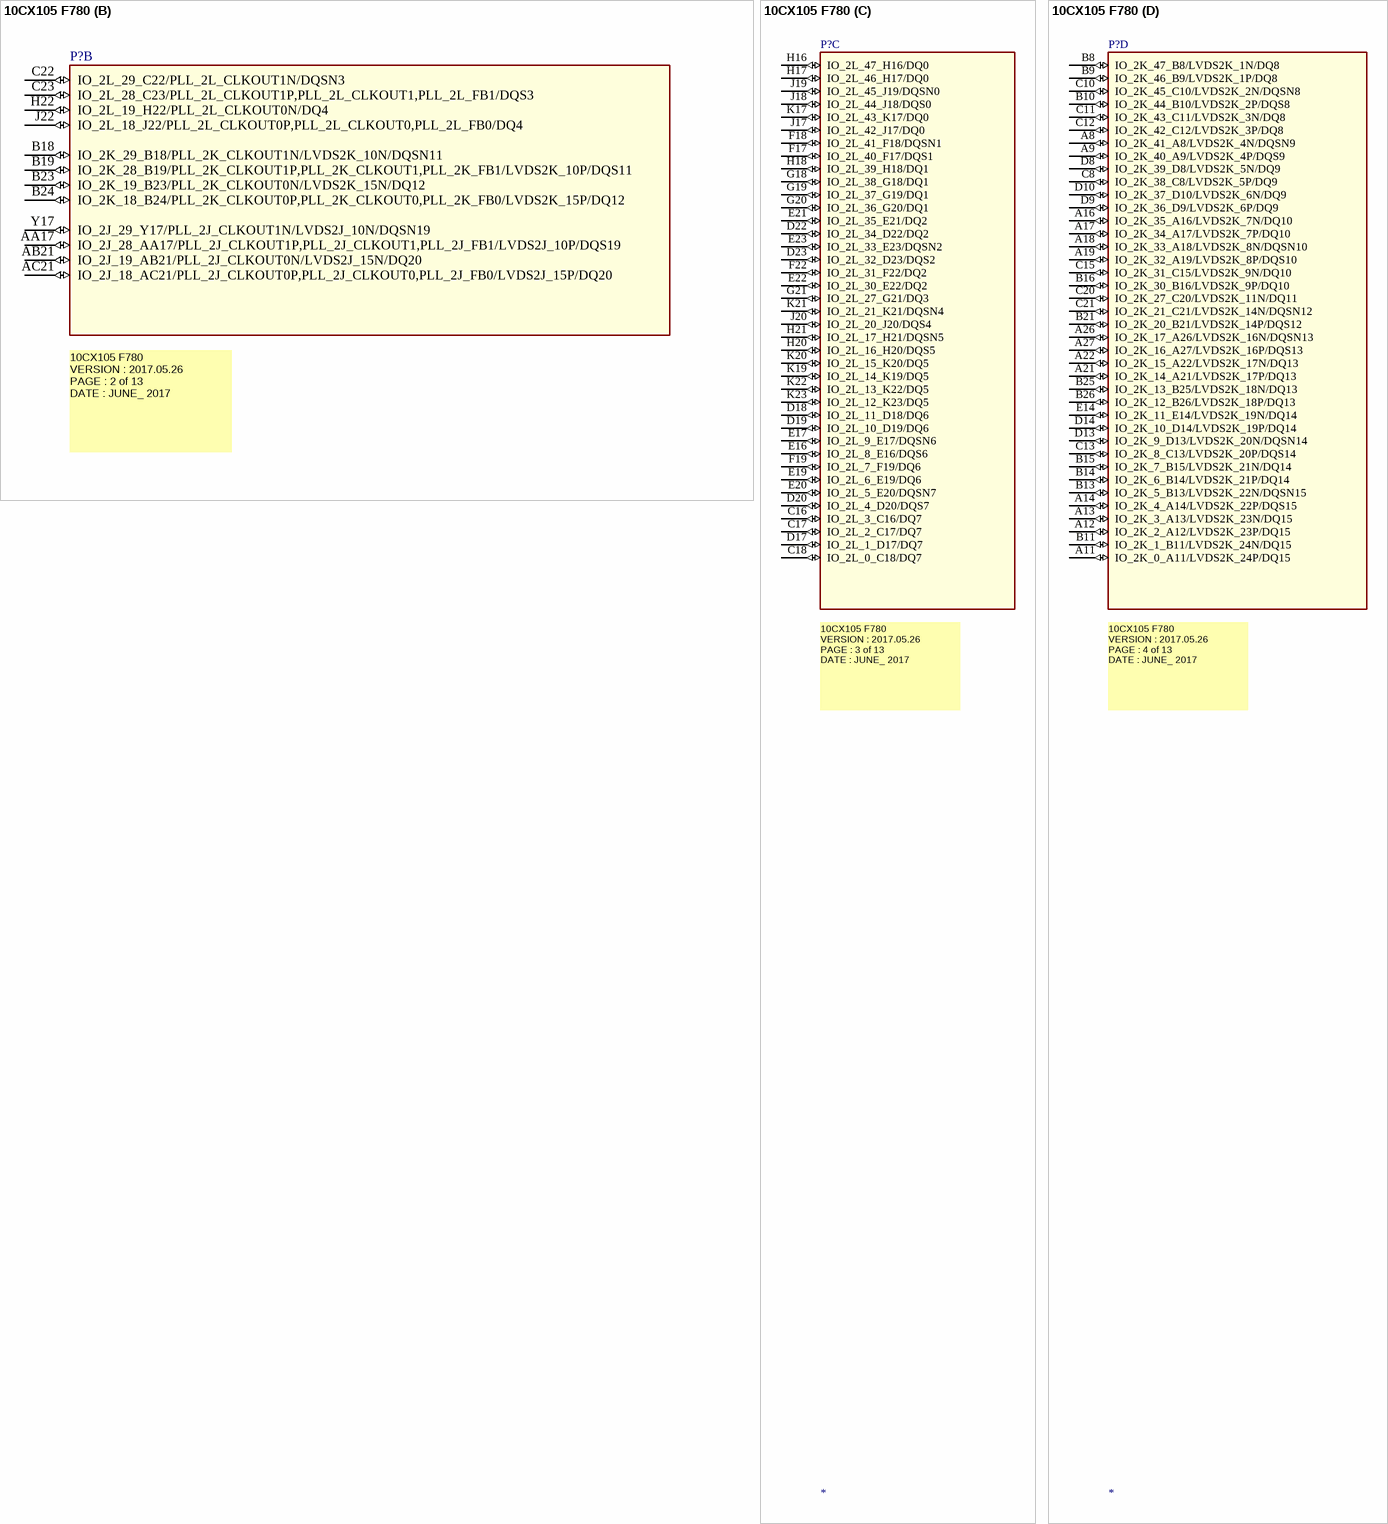
[diagram p4: symbol 10CX105 F780]

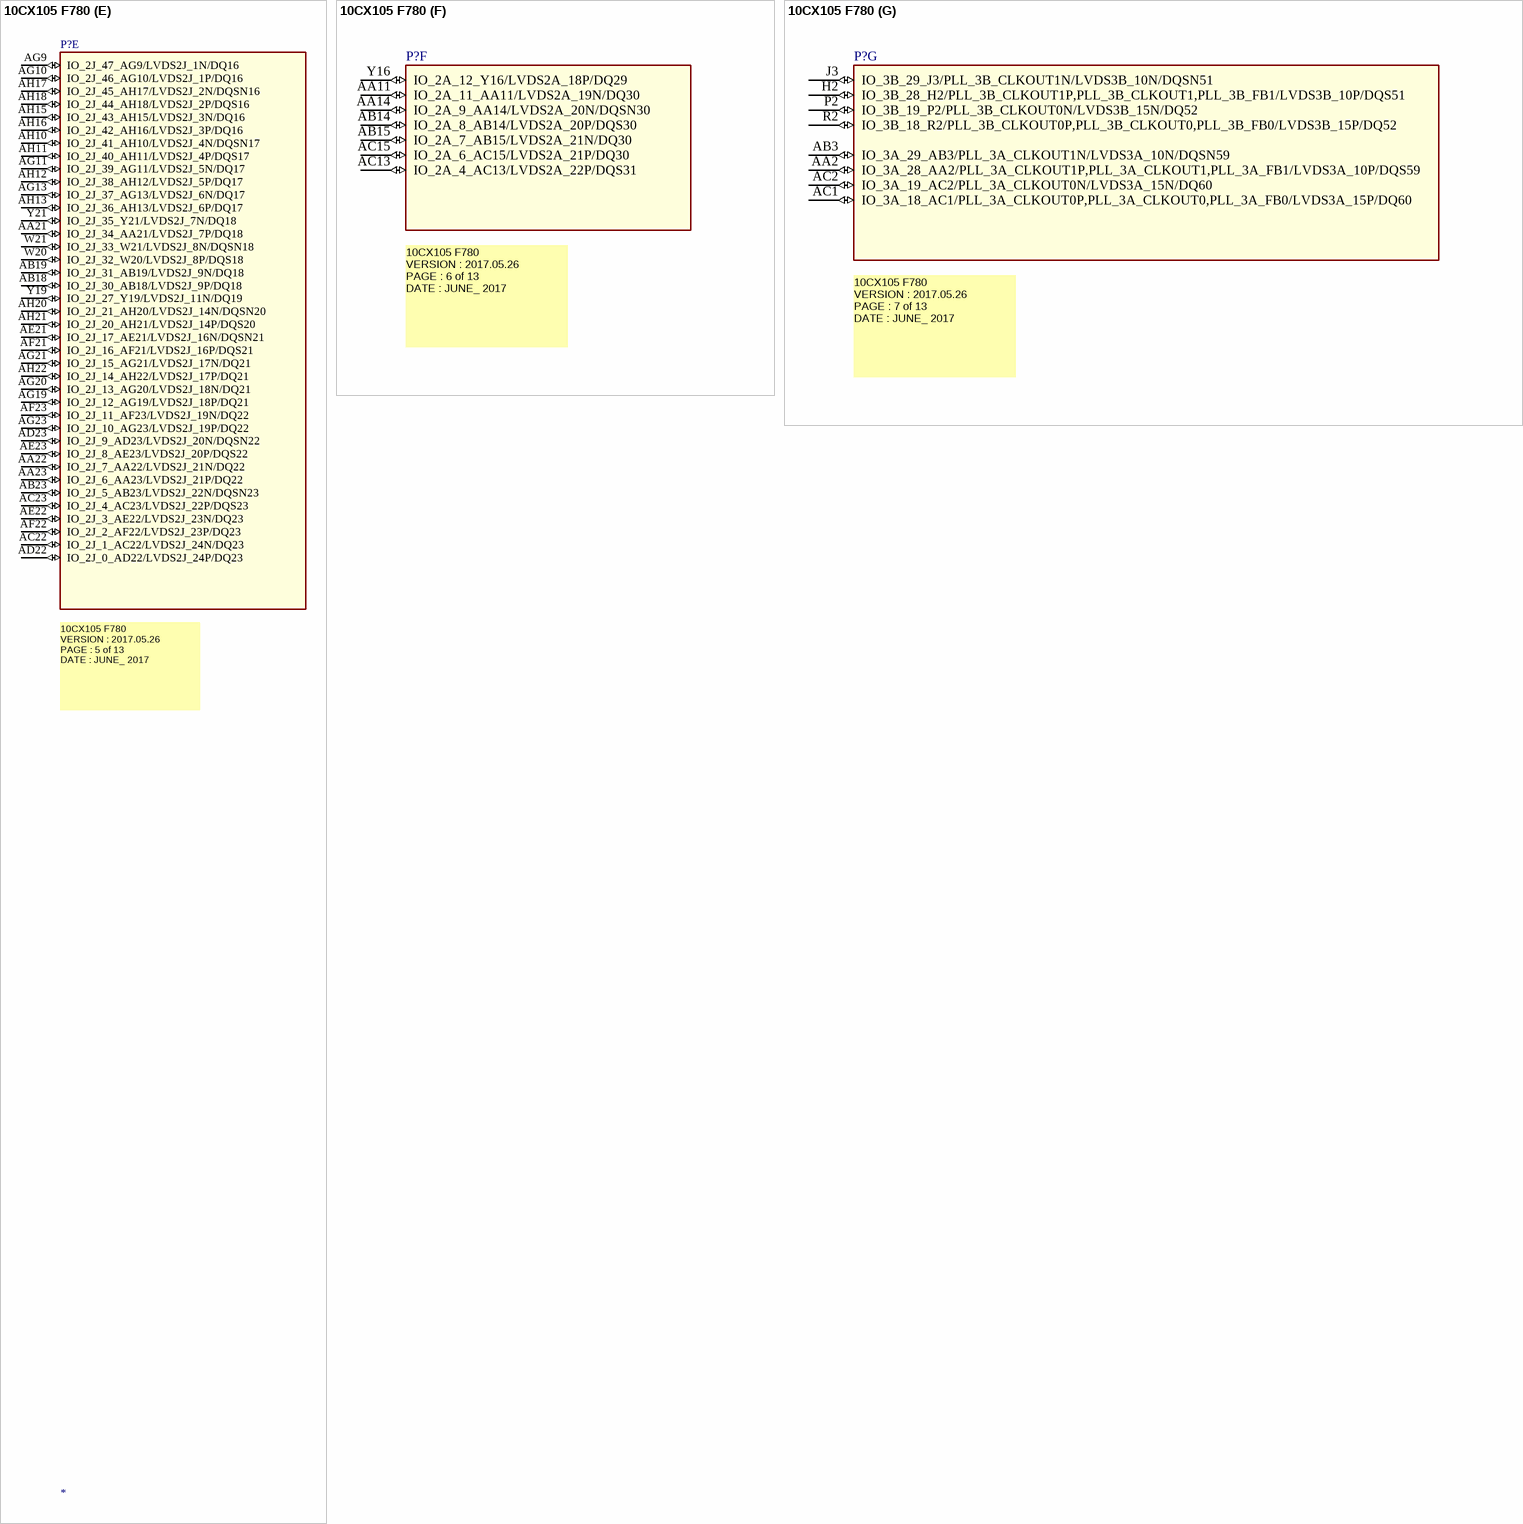
[diagram p5: symbol 10CX105 F780]

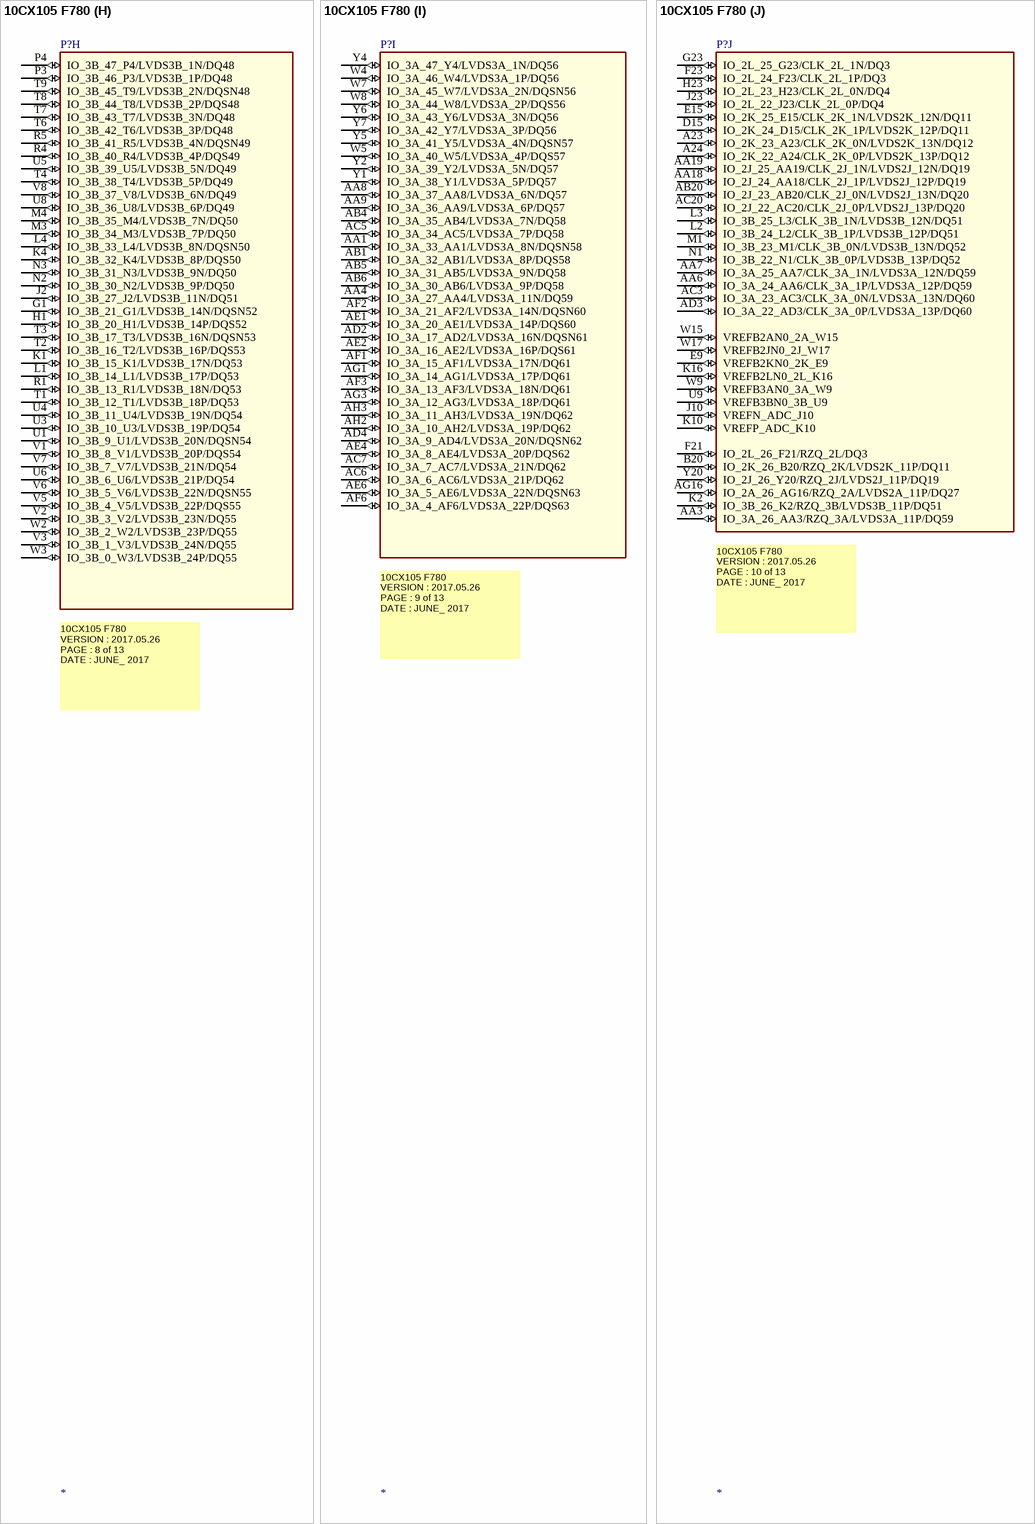
[diagram p6: symbol 10CX105 F780]

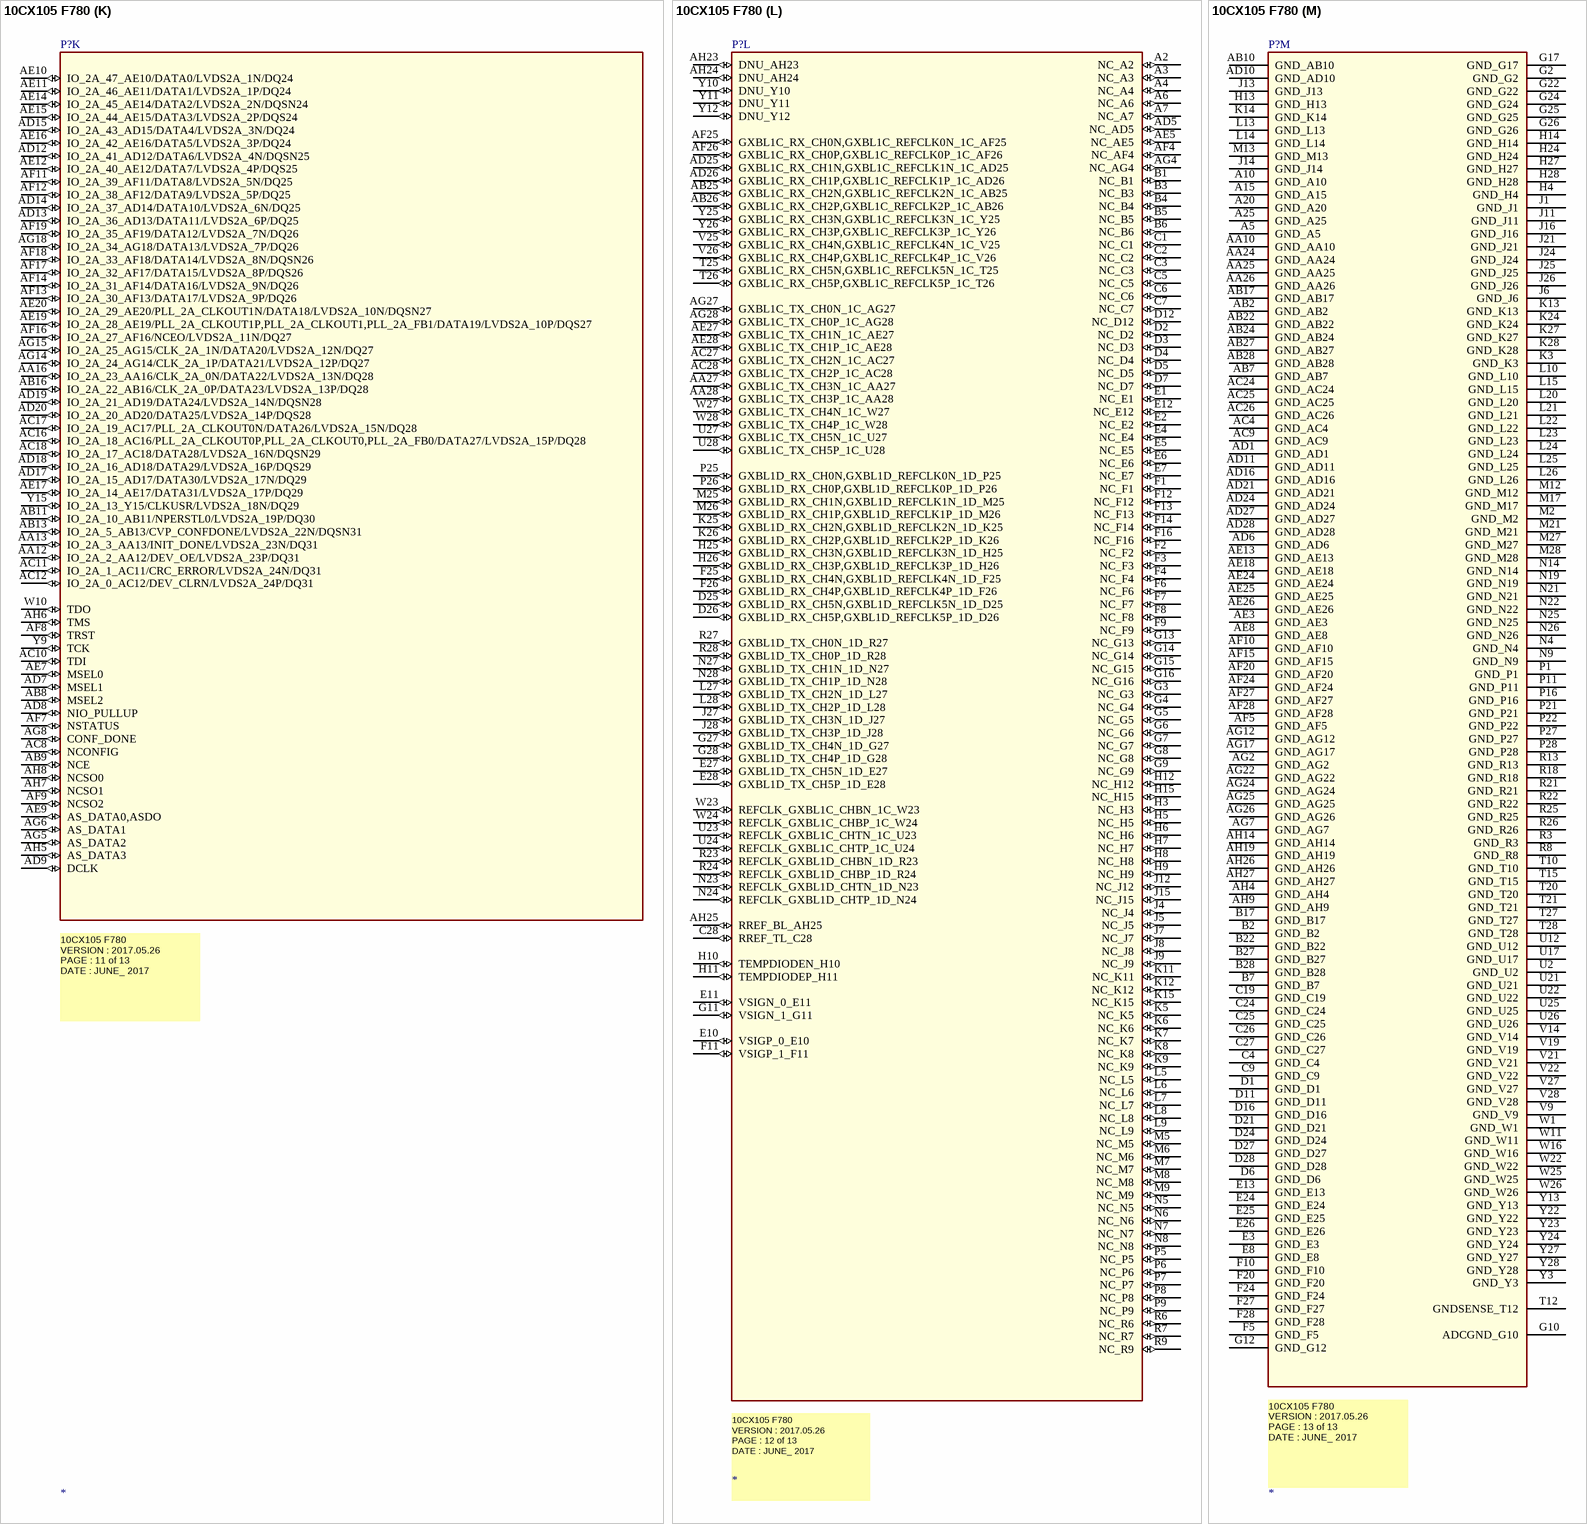
[diagram p7: symbol 10CX105 F780]

## 10CX105 F780
designator P?
SPLIT_INST: TRUE; SWAP_INFO: (S1+S2+S3+S4+S5+S6+S7+S8+S9+S10+S11+S12+S13)
part A pins: AA5 VCCIO3A_AA5 (power), AA15 VCCIO2A_AA15 (power), AA20 VCCIO2J_AA20 (power), AB12 VCCIO2A_AB12 (power), AC14 VCCIO2A_AC14 (power), AC19 VCCIO2J_AC19 (power), B12 VCCIO2K_B12 (power), C14 VCCIO2K_C14 (power), E18 VCCIO2L_E18 (power), F15 VCCIO2K_F15 (power), H19 VCCIO2L_H19 (power), K18 VCCIO2L_K18 (power), L11 VCC_L11 (power), L12 VCC_L12 (power), L16 VCC_L16 (power), L17 VCC_L17 (power), L18 VCC_L18 (power), L19 VCC_L19 (power), M10 VCC_M10 (power), M11 VCC_M11 (power), M14 VCCPT_M14 (power), M15 VCC_M15 (power), M16 VCC_M16 (power), M18 VCCPT_M18 (power), M19 VCC_M19 (power), M20 VCC_M20 (power), M22 VCCH_GXBL_M22 (power), M23 VCCT_GXBL1D_M23 (power), M24 VCCT_GXBL1D_M24 (power), N10 VCC_N10 (power), N11 VCCP_N11 (power), N12 VCC_N12 (power), N13 VCC_N13 (power), N15 VCC_N15 (power), N16 VCC_N16 (power), N17 VCCP_N17 (power), N18 VCC_N18 (power), N20 VCC_N20 (power), P10 VCC_P10 (power), P12 VCC_P12 (power), P13 VCCA_PLL_P13 (power), P14 VCC_P14 (power), P15 VCCA_PLL_P15 (power), P17 VCC_P17 (power), P18 VCC_P18 (power), P19 VCC_P19 (power), P20 VCC_P20 (power), P23 VCCR_GXBL1D_P23 (power), P24 VCCR_GXBL1D_P24 (power), R10 VCC_R10 (power), R11 VCC_R11 (power), R12 VCCERAM_R12 (power), R14 VCC_R14 (power), R15 VCC_R15 (power), R16 VCC_R16 (power), R17 VCCERAM_R17 (power), R19 VCC_R19 (power), R20 VCC_R20 (power), T5 VCCIO3B_T5 (power), T11 VCC_T11 (power), T13 VCCLSENSE_T13 (power), T14 VCC_T14 (power), T16 VCC_T16 (power), T17 VCC_T17 (power), T18 VCC_T18 (power), T19 VCC_T19 (power), T22 VCCH_GXBL_T22 (power), T23 VCCT_GXBL1C_T23 (power), T24 VCCT_GXBL1C_T24 (power), U7 VCCIO3B_U7 (power), U10 VCC_U10 (power), U11 VCCP_U11 (power), U13 VCCP_U13 (power), U14 VCC_U14 (power), U15 VCC_U15 (power), U16 VCCP_U16 (power), U18 VCC_U18 (power), U19 VCC_U19 (power), U20 VCC_U20 (power), V4 VCCIO3B_V4 (power), V10 VCC_V10 (power), V11 VCC_V11 (power), V12 VCCPT_V12 (power), V13 VCC_V13 (power), V15 VCC_V15 (power), V16 VCC_V16 (power), V17 VCC_V17 (power), V18 VCCPT_V18 (power), V20 VCC_V20 (power), V23 VCCR_GXBL1C_V23 (power), V24 VCCR_GXBL1C_V24 (power), W6 VCCIO3A_W6 (power), W12 VCC_W12 (power), W13 VCCBAT_W13 (power), W14 VCCPGM_W14 (power), W18 VCC_W18 (power), W19 VCC_W19 (power), Y8 VCCIO3A_Y8 (power), Y14 VCCPGM_Y14 (power), Y18 VCCIO2J_Y18 (power)
part B pins: AA17 IO_2J_28_AA17/PLL_2J_CLKOUT1P,PLL_2J_CLKOUT1,PLL_2J_FB1/LVDS2J_10P/DQS19 (io), AB21 IO_2J_19_AB21/PLL_2J_CLKOUT0N/LVDS2J_15N/DQ20 (io), AC21 IO_2J_18_AC21/PLL_2J_CLKOUT0P,PLL_2J_CLKOUT0,PLL_2J_FB0/LVDS2J_15P/DQ20 (io), B18 IO_2K_29_B18/PLL_2K_CLKOUT1N/LVDS2K_10N/DQSN11 (io), B19 IO_2K_28_B19/PLL_2K_CLKOUT1P,PLL_2K_CLKOUT1,PLL_2K_FB1/LVDS2K_10P/DQS11 (io), B23 IO_2K_19_B23/PLL_2K_CLKOUT0N/LVDS2K_15N/DQ12 (io), B24 IO_2K_18_B24/PLL_2K_CLKOUT0P,PLL_2K_CLKOUT0,PLL_2K_FB0/LVDS2K_15P/DQ12 (io), C22 IO_2L_29_C22/PLL_2L_CLKOUT1N/DQSN3 (io), C23 IO_2L_28_C23/PLL_2L_CLKOUT1P,PLL_2L_CLKOUT1,PLL_2L_FB1/DQS3 (io), H22 IO_2L_19_H22/PLL_2L_CLKOUT0N/DQ4 (io), J22 IO_2L_18_J22/PLL_2L_CLKOUT0P,PLL_2L_CLKOUT0,PLL_2L_FB0/DQ4 (io), Y17 IO_2J_29_Y17/PLL_2J_CLKOUT1N/LVDS2J_10N/DQSN19 (io)
part C pins: C16 IO_2L_3_C16/DQ7 (io), C17 IO_2L_2_C17/DQ7 (io), C18 IO_2L_0_C18/DQ7 (io), D17 IO_2L_1_D17/DQ7 (io), D18 IO_2L_11_D18/DQ6 (io), D19 IO_2L_10_D19/DQ6 (io), D20 IO_2L_4_D20/DQS7 (io), D22 IO_2L_34_D22/DQ2 (io), D23 IO_2L_32_D23/DQS2 (io), E16 IO_2L_8_E16/DQS6 (io), E17 IO_2L_9_E17/DQSN6 (io), E19 IO_2L_6_E19/DQ6 (io), E20 IO_2L_5_E20/DQSN7 (io), E21 IO_2L_35_E21/DQ2 (io), E22 IO_2L_30_E22/DQ2 (io), E23 IO_2L_33_E23/DQSN2 (io), F17 IO_2L_40_F17/DQS1 (io), F18 IO_2L_41_F18/DQSN1 (io), F19 IO_2L_7_F19/DQ6 (io), F22 IO_2L_31_F22/DQ2 (io), G18 IO_2L_38_G18/DQ1 (io), G19 IO_2L_37_G19/DQ1 (io), G20 IO_2L_36_G20/DQ1 (io), G21 IO_2L_27_G21/DQ3 (io), H16 IO_2L_47_H16/DQ0 (io), H17 IO_2L_46_H17/DQ0 (io), H18 IO_2L_39_H18/DQ1 (io), H20 IO_2L_16_H20/DQS5 (io), H21 IO_2L_17_H21/DQSN5 (io), J17 IO_2L_42_J17/DQ0 (io), J18 IO_2L_44_J18/DQS0 (io), J19 IO_2L_45_J19/DQSN0 (io), J20 IO_2L_20_J20/DQS4 (io), K17 IO_2L_43_K17/DQ0 (io), K19 IO_2L_14_K19/DQ5 (io), K20 IO_2L_15_K20/DQ5 (io), K21 IO_2L_21_K21/DQSN4 (io), K22 IO_2L_13_K22/DQ5 (io), K23 IO_2L_12_K23/DQ5 (io)
part D pins: A8 IO_2K_41_A8/LVDS2K_4N/DQSN9 (io), A9 IO_2K_40_A9/LVDS2K_4P/DQS9 (io), A11 IO_2K_0_A11/LVDS2K_24P/DQ15 (io), A12 IO_2K_2_A12/LVDS2K_23P/DQ15 (io), A13 IO_2K_3_A13/LVDS2K_23N/DQ15 (io), A14 IO_2K_4_A14/LVDS2K_22P/DQS15 (io), A16 IO_2K_35_A16/LVDS2K_7N/DQ10 (io), A17 IO_2K_34_A17/LVDS2K_7P/DQ10 (io), A18 IO_2K_33_A18/LVDS2K_8N/DQSN10 (io), A19 IO_2K_32_A19/LVDS2K_8P/DQS10 (io), A21 IO_2K_14_A21/LVDS2K_17P/DQ13 (io), A22 IO_2K_15_A22/LVDS2K_17N/DQ13 (io), A26 IO_2K_17_A26/LVDS2K_16N/DQSN13 (io), A27 IO_2K_16_A27/LVDS2K_16P/DQS13 (io), B8 IO_2K_47_B8/LVDS2K_1N/DQ8 (io), B9 IO_2K_46_B9/LVDS2K_1P/DQ8 (io), B10 IO_2K_44_B10/LVDS2K_2P/DQS8 (io), B11 IO_2K_1_B11/LVDS2K_24N/DQ15 (io), B13 IO_2K_5_B13/LVDS2K_22N/DQSN15 (io), B14 IO_2K_6_B14/LVDS2K_21P/DQ14 (io), B15 IO_2K_7_B15/LVDS2K_21N/DQ14 (io), B16 IO_2K_30_B16/LVDS2K_9P/DQ10 (io), B21 IO_2K_20_B21/LVDS2K_14P/DQS12 (io), B25 IO_2K_13_B25/LVDS2K_18N/DQ13 (io), B26 IO_2K_12_B26/LVDS2K_18P/DQ13 (io), C8 IO_2K_38_C8/LVDS2K_5P/DQ9 (io), C10 IO_2K_45_C10/LVDS2K_2N/DQSN8 (io), C11 IO_2K_43_C11/LVDS2K_3N/DQ8 (io), C12 IO_2K_42_C12/LVDS2K_3P/DQ8 (io), C13 IO_2K_8_C13/LVDS2K_20P/DQS14 (io), C15 IO_2K_31_C15/LVDS2K_9N/DQ10 (io), C20 IO_2K_27_C20/LVDS2K_11N/DQ11 (io), C21 IO_2K_21_C21/LVDS2K_14N/DQSN12 (io), D8 IO_2K_39_D8/LVDS2K_5N/DQ9 (io), D9 IO_2K_36_D9/LVDS2K_6P/DQ9 (io), D10 IO_2K_37_D10/LVDS2K_6N/DQ9 (io), D13 IO_2K_9_D13/LVDS2K_20N/DQSN14 (io), D14 IO_2K_10_D14/LVDS2K_19P/DQ14 (io), E14 IO_2K_11_E14/LVDS2K_19N/DQ14 (io)
part E pins: AA21 IO_2J_34_AA21/LVDS2J_7P/DQ18 (io), AA22 IO_2J_7_AA22/LVDS2J_21N/DQ22 (io), AA23 IO_2J_6_AA23/LVDS2J_21P/DQ22 (io), AB18 IO_2J_30_AB18/LVDS2J_9P/DQ18 (io), AB19 IO_2J_31_AB19/LVDS2J_9N/DQ18 (io), AB23 IO_2J_5_AB23/LVDS2J_22N/DQSN23 (io), AC22 IO_2J_1_AC22/LVDS2J_24N/DQ23 (io), AC23 IO_2J_4_AC23/LVDS2J_22P/DQS23 (io), AD22 IO_2J_0_AD22/LVDS2J_24P/DQ23 (io), AD23 IO_2J_9_AD23/LVDS2J_20N/DQSN22 (io), AE21 IO_2J_17_AE21/LVDS2J_16N/DQSN21 (io), AE22 IO_2J_3_AE22/LVDS2J_23N/DQ23 (io), AE23 IO_2J_8_AE23/LVDS2J_20P/DQS22 (io), AF21 IO_2J_16_AF21/LVDS2J_16P/DQS21 (io), AF22 IO_2J_2_AF22/LVDS2J_23P/DQ23 (io), AF23 IO_2J_11_AF23/LVDS2J_19N/DQ22 (io), AG9 IO_2J_47_AG9/LVDS2J_1N/DQ16 (io), AG10 IO_2J_46_AG10/LVDS2J_1P/DQ16 (io), AG11 IO_2J_39_AG11/LVDS2J_5N/DQ17 (io), AG13 IO_2J_37_AG13/LVDS2J_6N/DQ17 (io), AG19 IO_2J_12_AG19/LVDS2J_18P/DQ21 (io), AG20 IO_2J_13_AG20/LVDS2J_18N/DQ21 (io), AG21 IO_2J_15_AG21/LVDS2J_17N/DQ21 (io), AG23 IO_2J_10_AG23/LVDS2J_19P/DQ22 (io), AH10 IO_2J_41_AH10/LVDS2J_4N/DQSN17 (io), AH11 IO_2J_40_AH11/LVDS2J_4P/DQS17 (io), AH12 IO_2J_38_AH12/LVDS2J_5P/DQ17 (io), AH13 IO_2J_36_AH13/LVDS2J_6P/DQ17 (io), AH15 IO_2J_43_AH15/LVDS2J_3N/DQ16 (io), AH16 IO_2J_42_AH16/LVDS2J_3P/DQ16 (io), AH17 IO_2J_45_AH17/LVDS2J_2N/DQSN16 (io), AH18 IO_2J_44_AH18/LVDS2J_2P/DQS16 (io), AH20 IO_2J_21_AH20/LVDS2J_14N/DQSN20 (io), AH21 IO_2J_20_AH21/LVDS2J_14P/DQS20 (io), AH22 IO_2J_14_AH22/LVDS2J_17P/DQ21 (io), W20 IO_2J_32_W20/LVDS2J_8P/DQS18 (io), W21 IO_2J_33_W21/LVDS2J_8N/DQSN18 (io), Y19 IO_2J_27_Y19/LVDS2J_11N/DQ19 (io), Y21 IO_2J_35_Y21/LVDS2J_7N/DQ18 (io)
part F pins: AA11 IO_2A_11_AA11/LVDS2A_19N/DQ30 (io), AA14 IO_2A_9_AA14/LVDS2A_20N/DQSN30 (io), AB14 IO_2A_8_AB14/LVDS2A_20P/DQS30 (io), AB15 IO_2A_7_AB15/LVDS2A_21N/DQ30 (io), AC13 IO_2A_4_AC13/LVDS2A_22P/DQS31 (io), AC15 IO_2A_6_AC15/LVDS2A_21P/DQ30 (io), Y16 IO_2A_12_Y16/LVDS2A_18P/DQ29 (io)
part G pins: AA2 IO_3A_28_AA2/PLL_3A_CLKOUT1P,PLL_3A_CLKOUT1,PLL_3A_FB1/LVDS3A_10P/DQS59 (io), AB3 IO_3A_29_AB3/PLL_3A_CLKOUT1N/LVDS3A_10N/DQSN59 (io), AC1 IO_3A_18_AC1/PLL_3A_CLKOUT0P,PLL_3A_CLKOUT0,PLL_3A_FB0/LVDS3A_15P/DQ60 (io), AC2 IO_3A_19_AC2/PLL_3A_CLKOUT0N/LVDS3A_15N/DQ60 (io), H2 IO_3B_28_H2/PLL_3B_CLKOUT1P,PLL_3B_CLKOUT1,PLL_3B_FB1/LVDS3B_10P/DQS51 (io), J3 IO_3B_29_J3/PLL_3B_CLKOUT1N/LVDS3B_10N/DQSN51 (io), P2 IO_3B_19_P2/PLL_3B_CLKOUT0N/LVDS3B_15N/DQ52 (io), R2 IO_3B_18_R2/PLL_3B_CLKOUT0P,PLL_3B_CLKOUT0,PLL_3B_FB0/LVDS3B_15P/DQ52 (io)
part H pins: G1 IO_3B_21_G1/LVDS3B_14N/DQSN52 (io), H1 IO_3B_20_H1/LVDS3B_14P/DQS52 (io), J2 IO_3B_27_J2/LVDS3B_11N/DQ51 (io), K1 IO_3B_15_K1/LVDS3B_17N/DQ53 (io), K4 IO_3B_32_K4/LVDS3B_8P/DQS50 (io), L1 IO_3B_14_L1/LVDS3B_17P/DQ53 (io), L4 IO_3B_33_L4/LVDS3B_8N/DQSN50 (io), M3 IO_3B_34_M3/LVDS3B_7P/DQ50 (io), M4 IO_3B_35_M4/LVDS3B_7N/DQ50 (io), N2 IO_3B_30_N2/LVDS3B_9P/DQ50 (io), N3 IO_3B_31_N3/LVDS3B_9N/DQ50 (io), P3 IO_3B_46_P3/LVDS3B_1P/DQ48 (io), P4 IO_3B_47_P4/LVDS3B_1N/DQ48 (io), R1 IO_3B_13_R1/LVDS3B_18N/DQ53 (io), R4 IO_3B_40_R4/LVDS3B_4P/DQS49 (io), R5 IO_3B_41_R5/LVDS3B_4N/DQSN49 (io), T1 IO_3B_12_T1/LVDS3B_18P/DQ53 (io), T2 IO_3B_16_T2/LVDS3B_16P/DQS53 (io), T3 IO_3B_17_T3/LVDS3B_16N/DQSN53 (io), T4 IO_3B_38_T4/LVDS3B_5P/DQ49 (io), T6 IO_3B_42_T6/LVDS3B_3P/DQ48 (io), T7 IO_3B_43_T7/LVDS3B_3N/DQ48 (io), T8 IO_3B_44_T8/LVDS3B_2P/DQS48 (io), T9 IO_3B_45_T9/LVDS3B_2N/DQSN48 (io), U1 IO_3B_9_U1/LVDS3B_20N/DQSN54 (io), U3 IO_3B_10_U3/LVDS3B_19P/DQ54 (io), U4 IO_3B_11_U4/LVDS3B_19N/DQ54 (io), U5 IO_3B_39_U5/LVDS3B_5N/DQ49 (io), U6 IO_3B_6_U6/LVDS3B_21P/DQ54 (io), U8 IO_3B_36_U8/LVDS3B_6P/DQ49 (io), V1 IO_3B_8_V1/LVDS3B_20P/DQS54 (io), V2 IO_3B_3_V2/LVDS3B_23N/DQ55 (io), V3 IO_3B_1_V3/LVDS3B_24N/DQ55 (io), V5 IO_3B_4_V5/LVDS3B_22P/DQS55 (io), V6 IO_3B_5_V6/LVDS3B_22N/DQSN55 (io), V7 IO_3B_7_V7/LVDS3B_21N/DQ54 (io), V8 IO_3B_37_V8/LVDS3B_6N/DQ49 (io), W2 IO_3B_2_W2/LVDS3B_23P/DQ55 (io), W3 IO_3B_0_W3/LVDS3B_24P/DQ55 (io)
part I pins: AA1 IO_3A_33_AA1/LVDS3A_8N/DQSN58 (io), AA4 IO_3A_27_AA4/LVDS3A_11N/DQ59 (io), AA8 IO_3A_37_AA8/LVDS3A_6N/DQ57 (io), AA9 IO_3A_36_AA9/LVDS3A_6P/DQ57 (io), AB1 IO_3A_32_AB1/LVDS3A_8P/DQS58 (io), AB4 IO_3A_35_AB4/LVDS3A_7N/DQ58 (io), AB5 IO_3A_31_AB5/LVDS3A_9N/DQ58 (io), AB6 IO_3A_30_AB6/LVDS3A_9P/DQ58 (io), AC5 IO_3A_34_AC5/LVDS3A_7P/DQ58 (io), AC6 IO_3A_6_AC6/LVDS3A_21P/DQ62 (io), AC7 IO_3A_7_AC7/LVDS3A_21N/DQ62 (io), AD2 IO_3A_17_AD2/LVDS3A_16N/DQSN61 (io), AD4 IO_3A_9_AD4/LVDS3A_20N/DQSN62 (io), AE1 IO_3A_20_AE1/LVDS3A_14P/DQS60 (io), AE2 IO_3A_16_AE2/LVDS3A_16P/DQS61 (io), AE4 IO_3A_8_AE4/LVDS3A_20P/DQS62 (io), AE6 IO_3A_5_AE6/LVDS3A_22N/DQSN63 (io), AF1 IO_3A_15_AF1/LVDS3A_17N/DQ61 (io), AF2 IO_3A_21_AF2/LVDS3A_14N/DQSN60 (io), AF3 IO_3A_13_AF3/LVDS3A_18N/DQ61 (io), AF6 IO_3A_4_AF6/LVDS3A_22P/DQS63 (io), AG1 IO_3A_14_AG1/LVDS3A_17P/DQ61 (io), AG3 IO_3A_12_AG3/LVDS3A_18P/DQ61 (io), AH2 IO_3A_10_AH2/LVDS3A_19P/DQ62 (io), AH3 IO_3A_11_AH3/LVDS3A_19N/DQ62 (io), W4 IO_3A_46_W4/LVDS3A_1P/DQ56 (io), W5 IO_3A_40_W5/LVDS3A_4P/DQS57 (io), W7 IO_3A_45_W7/LVDS3A_2N/DQSN56 (io), W8 IO_3A_44_W8/LVDS3A_2P/DQS56 (io), Y1 IO_3A_38_Y1/LVDS3A_5P/DQ57 (io), Y2 IO_3A_39_Y2/LVDS3A_5N/DQ57 (io), Y4 IO_3A_47_Y4/LVDS3A_1N/DQ56 (io), Y5 IO_3A_41_Y5/LVDS3A_4N/DQSN57 (io), Y6 IO_3A_43_Y6/LVDS3A_3N/DQ56 (io), Y7 IO_3A_42_Y7/LVDS3A_3P/DQ56 (io)
part J pins: A23 IO_2K_23_A23/CLK_2K_0N/LVDS2K_13N/DQ12 (io), A24 IO_2K_22_A24/CLK_2K_0P/LVDS2K_13P/DQ12 (io), AA3 IO_3A_26_AA3/RZQ_3A/LVDS3A_11P/DQ59 (io), AA6 IO_3A_24_AA6/CLK_3A_1P/LVDS3A_12P/DQ59 (io), AA7 IO_3A_25_AA7/CLK_3A_1N/LVDS3A_12N/DQ59 (io), AA18 IO_2J_24_AA18/CLK_2J_1P/LVDS2J_12P/DQ19 (io), AA19 IO_2J_25_AA19/CLK_2J_1N/LVDS2J_12N/DQ19 (io), AB20 IO_2J_23_AB20/CLK_2J_0N/LVDS2J_13N/DQ20 (io), AC3 IO_3A_23_AC3/CLK_3A_0N/LVDS3A_13N/DQ60 (io), AC20 IO_2J_22_AC20/CLK_2J_0P/LVDS2J_13P/DQ20 (io), AD3 IO_3A_22_AD3/CLK_3A_0P/LVDS3A_13P/DQ60 (io), AG16 IO_2A_26_AG16/RZQ_2A/LVDS2A_11P/DQ27 (io), B20 IO_2K_26_B20/RZQ_2K/LVDS2K_11P/DQ11 (io), D15 IO_2K_24_D15/CLK_2K_1P/LVDS2K_12P/DQ11 (io), E9 VREFB2KN0_2K_E9 (io), E15 IO_2K_25_E15/CLK_2K_1N/LVDS2K_12N/DQ11 (io), F21 IO_2L_26_F21/RZQ_2L/DQ3 (io), F23 IO_2L_24_F23/CLK_2L_1P/DQ3 (io), G23 IO_2L_25_G23/CLK_2L_1N/DQ3 (io), H23 IO_2L_23_H23/CLK_2L_0N/DQ4 (io), J10 VREFN_ADC_J10 (io), J23 IO_2L_22_J23/CLK_2L_0P/DQ4 (io), K2 IO_3B_26_K2/RZQ_3B/LVDS3B_11P/DQ51 (io), K10 VREFP_ADC_K10 (io), K16 VREFB2LN0_2L_K16 (io), L2 IO_3B_24_L2/CLK_3B_1P/LVDS3B_12P/DQ51 (io), L3 IO_3B_25_L3/CLK_3B_1N/LVDS3B_12N/DQ51 (io), M1 IO_3B_23_M1/CLK_3B_0N/LVDS3B_13N/DQ52 (io), N1 IO_3B_22_N1/CLK_3B_0P/LVDS3B_13P/DQ52 (io), U9 VREFB3BN0_3B_U9 (io), W9 VREFB3AN0_3A_W9 (io), W15 VREFB2AN0_2A_W15 (io), W17 VREFB2JN0_2J_W17 (io), Y20 IO_2J_26_Y20/RZQ_2J/LVDS2J_11P/DQ19 (io)
part K pins: AA12 IO_2A_2_AA12/DEV_OE/LVDS2A_23P/DQ31 (io), AA13 IO_2A_3_AA13/INIT_DONE/LVDS2A_23N/DQ31 (io), AA16 IO_2A_23_AA16/CLK_2A_0N/DATA22/LVDS2A_13N/DQ28 (io), AB8 MSEL2 (io), AB9 NCE (io), AB11 IO_2A_10_AB11/NPERSTL0/LVDS2A_19P/DQ30 (io), AB13 IO_2A_5_AB13/CVP_CONFDONE/LVDS2A_22N/DQSN31 (io), AB16 IO_2A_22_AB16/CLK_2A_0P/DATA23/LVDS2A_13P/DQ28 (io), AC8 NCONFIG (io), AC10 TDI (io), AC11 IO_2A_1_AC11/CRC_ERROR/LVDS2A_24N/DQ31 (io), AC12 IO_2A_0_AC12/DEV_CLRN/LVDS2A_24P/DQ31 (io), AC16 IO_2A_18_AC16/PLL_2A_CLKOUT0P,PLL_2A_CLKOUT0,PLL_2A_FB0/DATA27/LVDS2A_15P/DQ28 (io), AC17 IO_2A_19_AC17/PLL_2A_CLKOUT0N/DATA26/LVDS2A_15N/DQ28 (io), AC18 IO_2A_17_AC18/DATA28/LVDS2A_16N/DQSN29 (io), AD7 MSEL1 (io), AD8 NIO_PULLUP (io), AD9 DCLK (io), AD12 IO_2A_41_AD12/DATA6/LVDS2A_4N/DQSN25 (io), AD13 IO_2A_36_AD13/DATA11/LVDS2A_6P/DQ25 (io), AD14 IO_2A_37_AD14/DATA10/LVDS2A_6N/DQ25 (io), AD15 IO_2A_43_AD15/DATA4/LVDS2A_3N/DQ24 (io), AD17 IO_2A_15_AD17/DATA30/LVDS2A_17N/DQ29 (io), AD18 IO_2A_16_AD18/DATA29/LVDS2A_16P/DQS29 (io), AD19 IO_2A_21_AD19/DATA24/LVDS2A_14N/DQSN28 (io), AD20 IO_2A_20_AD20/DATA25/LVDS2A_14P/DQS28 (io), AE7 MSEL0 (io), AE9 AS_DATA0,ASDO (io), AE10 IO_2A_47_AE10/DATA0/LVDS2A_1N/DQ24 (io), AE11 IO_2A_46_AE11/DATA1/LVDS2A_1P/DQ24 (io), AE12 IO_2A_40_AE12/DATA7/LVDS2A_4P/DQS25 (io), AE14 IO_2A_45_AE14/DATA2/LVDS2A_2N/DQSN24 (io), AE15 IO_2A_44_AE15/DATA3/LVDS2A_2P/DQS24 (io), AE16 IO_2A_42_AE16/DATA5/LVDS2A_3P/DQ24 (io), AE17 IO_2A_14_AE17/DATA31/LVDS2A_17P/DQ29 (io), AE19 IO_2A_28_AE19/PLL_2A_CLKOUT1P,PLL_2A_CLKOUT1,PLL_2A_FB1/DATA19/LVDS2A_10P/DQS27 (io), AE20 IO_2A_29_AE20/PLL_2A_CLKOUT1N/DATA18/LVDS2A_10N/DQSN27 (io), AF7 NSTATUS (io), AF8 TRST (io), AF9 NCSO2 (io), AF11 IO_2A_39_AF11/DATA8/LVDS2A_5N/DQ25 (io), AF12 IO_2A_38_AF12/DATA9/LVDS2A_5P/DQ25 (io), AF13 IO_2A_30_AF13/DATA17/LVDS2A_9P/DQ26 (io), AF14 IO_2A_31_AF14/DATA16/LVDS2A_9N/DQ26 (io), AF16 IO_2A_27_AF16/NCEO/LVDS2A_11N/DQ27 (io), AF17 IO_2A_32_AF17/DATA15/LVDS2A_8P/DQS26 (io), AF18 IO_2A_33_AF18/DATA14/LVDS2A_8N/DQSN26 (io), AF19 IO_2A_35_AF19/DATA12/LVDS2A_7N/DQ26 (io), AG5 AS_DATA2 (io), AG6 AS_DATA1 (io), AG8 CONF_DONE (io), AG14 IO_2A_24_AG14/CLK_2A_1P/DATA21/LVDS2A_12P/DQ27 (io), AG15 IO_2A_25_AG15/CLK_2A_1N/DATA20/LVDS2A_12N/DQ27 (io), AG18 IO_2A_34_AG18/DATA13/LVDS2A_7P/DQ26 (io), AH5 AS_DATA3 (io), AH6 TMS (io), AH7 NCSO1 (io), AH8 NCSO0 (io), W10 TDO (io), Y9 TCK (io), Y15 IO_2A_13_Y15/CLKUSR/LVDS2A_18N/DQ29 (io)
part L pins: A2 NC_A2 (io), A3 NC_A3 (io), A4 NC_A4 (io), A6 NC_A6 (io), A7 NC_A7 (io), AA27 GXBL1C_TX_CH3N_1C_AA27 (io), AA28 GXBL1C_TX_CH3P_1C_AA28 (io), AB25 GXBL1C_RX_CH2N,GXBL1C_REFCLK2N_1C_AB25 (io), AB26 GXBL1C_RX_CH2P,GXBL1C_REFCLK2P_1C_AB26 (io), AC27 GXBL1C_TX_CH2N_1C_AC27 (io), AC28 GXBL1C_TX_CH2P_1C_AC28 (io), AD5 NC_AD5 (io), AD25 GXBL1C_RX_CH1N,GXBL1C_REFCLK1N_1C_AD25 (io), AD26 GXBL1C_RX_CH1P,GXBL1C_REFCLK1P_1C_AD26 (io), AE5 NC_AE5 (io), AE27 GXBL1C_TX_CH1N_1C_AE27 (io), AE28 GXBL1C_TX_CH1P_1C_AE28 (io), AF4 NC_AF4 (io), AF25 GXBL1C_RX_CH0N,GXBL1C_REFCLK0N_1C_AF25 (io), AF26 GXBL1C_RX_CH0P,GXBL1C_REFCLK0P_1C_AF26 (io), AG4 NC_AG4 (io), AG27 GXBL1C_TX_CH0N_1C_AG27 (io), AG28 GXBL1C_TX_CH0P_1C_AG28 (io), AH23 DNU_AH23 (io), AH24 DNU_AH24 (io), AH25 RREF_BL_AH25 (io), B1 NC_B1 (io), B3 NC_B3 (io), B4 NC_B4 (io), B5 NC_B5 (io), B6 NC_B6 (io), C1 NC_C1 (io), C2 NC_C2 (io), C3 NC_C3 (io), C5 NC_C5 (io), C6 NC_C6 (io), C7 NC_C7 (io), C28 RREF_TL_C28 (io), D2 NC_D2 (io), D3 NC_D3 (io), D4 NC_D4 (io), D5 NC_D5 (io), D7 NC_D7 (io), D12 NC_D12 (io), D25 GXBL1D_RX_CH5N,GXBL1D_REFCLK5N_1D_D25 (io), D26 GXBL1D_RX_CH5P,GXBL1D_REFCLK5P_1D_D26 (io), E1 NC_E1 (io), E2 NC_E2 (io), E4 NC_E4 (io), E5 NC_E5 (io), E6 NC_E6 (io), E7 NC_E7 (io), E10 VSIGP_0_E10 (io), E11 VSIGN_0_E11 (io), E12 NC_E12 (io), E27 GXBL1D_TX_CH5N_1D_E27 (io), E28 GXBL1D_TX_CH5P_1D_E28 (io), F1 NC_F1 (io), F2 NC_F2 (io), F3 NC_F3 (io), F4 NC_F4 (io), F6 NC_F6 (io), F7 NC_F7 (io), F8 NC_F8 (io), F9 NC_F9 (io), F11 VSIGP_1_F11 (io), F12 NC_F12 (io), F13 NC_F13 (io), F14 NC_F14 (io), F16 NC_F16 (io), F25 GXBL1D_RX_CH4N,GXBL1D_REFCLK4N_1D_F25 (io), F26 GXBL1D_RX_CH4P,GXBL1D_REFCLK4P_1D_F26 (io), G3 NC_G3 (io), G4 NC_G4 (io), G5 NC_G5 (io), G6 NC_G6 (io), G7 NC_G7 (io), G8 NC_G8 (io), G9 NC_G9 (io), G11 VSIGN_1_G11 (io), G13 NC_G13 (io), G14 NC_G14 (io), G15 NC_G15 (io), G16 NC_G16 (io), G27 GXBL1D_TX_CH4N_1D_G27 (io), G28 GXBL1D_TX_CH4P_1D_G28 (io), H3 NC_H3 (io), H5 NC_H5 (io), H6 NC_H6 (io), H7 NC_H7 (io), H8 NC_H8 (io), H9 NC_H9 (io), H10 TEMPDIODEN_H10 (io), H11 TEMPDIODEP_H11 (io), H12 NC_H12 (io), H15 NC_H15 (io), H25 GXBL1D_RX_CH3N,GXBL1D_REFCLK3N_1D_H25 (io), H26 GXBL1D_RX_CH3P,GXBL1D_REFCLK3P_1D_H26 (io), J4 NC_J4 (io), J5 NC_J5 (io), J7 NC_J7 (io), J8 NC_J8 (io), J9 NC_J9 (io), J12 NC_J12 (io), J15 NC_J15 (io), J27 GXBL1D_TX_CH3N_1D_J27 (io), J28 GXBL1D_TX_CH3P_1D_J28 (io), K5 NC_K5 (io), K6 NC_K6 (io), K7 NC_K7 (io), K8 NC_K8 (io), K9 NC_K9 (io), K11 NC_K11 (io), K12 NC_K12 (io), K15 NC_K15 (io), K25 GXBL1D_RX_CH2N,GXBL1D_REFCLK2N_1D_K25 (io), K26 GXBL1D_RX_CH2P,GXBL1D_REFCLK2P_1D_K26 (io), L5 NC_L5 (io), L6 NC_L6 (io), L7 NC_L7 (io), L8 NC_L8 (io), L9 NC_L9 (io), L27 GXBL1D_TX_CH2N_1D_L27 (io), L28 GXBL1D_TX_CH2P_1D_L28 (io), M5 NC_M5 (io), M6 NC_M6 (io), M7 NC_M7 (io), M8 NC_M8 (io), M9 NC_M9 (io), M25 GXBL1D_RX_CH1N,GXBL1D_REFCLK1N_1D_M25 (io), M26 GXBL1D_RX_CH1P,GXBL1D_REFCLK1P_1D_M26 (io), N5 NC_N5 (io), N6 NC_N6 (io), N7 NC_N7 (io), N8 NC_N8 (io), N23 REFCLK_GXBL1D_CHTN_1D_N23 (io), N24 REFCLK_GXBL1D_CHTP_1D_N24 (io), N27 GXBL1D_TX_CH1N_1D_N27 (io), N28 GXBL1D_TX_CH1P_1D_N28 (io), P5 NC_P5 (io), P6 NC_P6 (io), P7 NC_P7 (io), P8 NC_P8 (io), P9 NC_P9 (io), P25 GXBL1D_RX_CH0N,GXBL1D_REFCLK0N_1D_P25 (io), P26 GXBL1D_RX_CH0P,GXBL1D_REFCLK0P_1D_P26 (io), R6 NC_R6 (io), R7 NC_R7 (io), R9 NC_R9 (io), R23 REFCLK_GXBL1D_CHBN_1D_R23 (io), R24 REFCLK_GXBL1D_CHBP_1D_R24 (io), R27 GXBL1D_TX_CH0N_1D_R27 (io), R28 GXBL1D_TX_CH0P_1D_R28 (io), T25 GXBL1C_RX_CH5N,GXBL1C_REFCLK5N_1C_T25 (io), T26 GXBL1C_RX_CH5P,GXBL1C_REFCLK5P_1C_T26 (io), U23 REFCLK_GXBL1C_CHTN_1C_U23 (io), U24 REFCLK_GXBL1C_CHTP_1C_U24 (io), U27 GXBL1C_TX_CH5N_1C_U27 (io), U28 GXBL1C_TX_CH5P_1C_U28 (io), V25 GXBL1C_RX_CH4N,GXBL1C_REFCLK4N_1C_V25 (io), V26 GXBL1C_RX_CH4P,GXBL1C_REFCLK4P_1C_V26 (io), W23 REFCLK_GXBL1C_CHBN_1C_W23 (io), W24 REFCLK_GXBL1C_CHBP_1C_W24 (io), W27 GXBL1C_TX_CH4N_1C_W27 (io), W28 GXBL1C_TX_CH4P_1C_W28 (io), Y10 DNU_Y10 (io), Y11 DNU_Y11 (io), Y12 DNU_Y12 (io), Y25 GXBL1C_RX_CH3N,GXBL1C_REFCLK3N_1C_Y25 (io), Y26 GXBL1C_RX_CH3P,GXBL1C_REFCLK3P_1C_Y26 (io)
part M pins: A5 GND_A5 (power), A10 GND_A10 (power), A15 GND_A15 (power), A20 GND_A20 (power), A25 GND_A25 (power), AA10 GND_AA10 (power), AA24 GND_AA24 (power), AA25 GND_AA25 (power), AA26 GND_AA26 (power), AB2 GND_AB2 (power), AB7 GND_AB7 (power), AB10 GND_AB10 (power), AB17 GND_AB17 (power), AB22 GND_AB22 (power), AB24 GND_AB24 (power), AB27 GND_AB27 (power), AB28 GND_AB28 (power), AC4 GND_AC4 (power), AC9 GND_AC9 (power), AC24 GND_AC24 (power), AC25 GND_AC25 (power), AC26 GND_AC26 (power), AD1 GND_AD1 (power), AD6 GND_AD6 (power), AD10 GND_AD10 (power), AD11 GND_AD11 (power), AD16 GND_AD16 (power), AD21 GND_AD21 (power), AD24 GND_AD24 (power), AD27 GND_AD27 (power), AD28 GND_AD28 (power), AE3 GND_AE3 (power), AE8 GND_AE8 (power), AE13 GND_AE13 (power), AE18 GND_AE18 (power), AE24 GND_AE24 (power), AE25 GND_AE25 (power), AE26 GND_AE26 (power), AF5 GND_AF5 (power), AF10 GND_AF10 (power), AF15 GND_AF15 (power), AF20 GND_AF20 (power), AF24 GND_AF24 (power), AF27 GND_AF27 (power), AF28 GND_AF28 (power), AG2 GND_AG2 (power), AG7 GND_AG7 (power), AG12 GND_AG12 (power), AG17 GND_AG17 (power), AG22 GND_AG22 (power), AG24 GND_AG24 (power), AG25 GND_AG25 (power), AG26 GND_AG26 (power), AH4 GND_AH4 (power), AH9 GND_AH9 (power), AH14 GND_AH14 (power), AH19 GND_AH19 (power), AH26 GND_AH26 (power), AH27 GND_AH27 (power), B2 GND_B2 (power), B7 GND_B7 (power), B17 GND_B17 (power), B22 GND_B22 (power), B27 GND_B27 (power), B28 GND_B28 (power), C4 GND_C4 (power), C9 GND_C9 (power), C19 GND_C19 (power), C24 GND_C24 (power), C25 GND_C25 (power), C26 GND_C26 (power), C27 GND_C27 (power), D1 GND_D1 (power), D6 GND_D6 (power), D11 GND_D11 (power), D16 GND_D16 (power), D21 GND_D21 (power), D24 GND_D24 (power), D27 GND_D27 (power), D28 GND_D28 (power), E3 GND_E3 (power), E8 GND_E8 (power), E13 GND_E13 (power), E24 GND_E24 (power), E25 GND_E25 (power), E26 GND_E26 (power), F5 GND_F5 (power), F10 GND_F10 (power), F20 GND_F20 (power), F24 GND_F24 (power), F27 GND_F27 (power), F28 GND_F28 (power), G2 GND_G2 (power), G10 ADCGND_G10 (power), G12 GND_G12 (power), G17 GND_G17 (power), G22 GND_G22 (power), G24 GND_G24 (power), G25 GND_G25 (power), G26 GND_G26 (power), H4 GND_H4 (power), H13 GND_H13 (power), H14 GND_H14 (power), H24 GND_H24 (power), H27 GND_H27 (power), H28 GND_H28 (power), J1 GND_J1 (power), J6 GND_J6 (power), J11 GND_J11 (power), J13 GND_J13 (power), J14 GND_J14 (power), J16 GND_J16 (power), J21 GND_J21 (power), J24 GND_J24 (power), J25 GND_J25 (power), J26 GND_J26 (power), K3 GND_K3 (power), K13 GND_K13 (power), K14 GND_K14 (power), K24 GND_K24 (power), K27 GND_K27 (power), K28 GND_K28 (power), L10 GND_L10 (power), L13 GND_L13 (power), L14 GND_L14 (power), L15 GND_L15 (power), L20 GND_L20 (power), L21 GND_L21 (power), L22 GND_L22 (power), L23 GND_L23 (power), L24 GND_L24 (power), L25 GND_L25 (power), L26 GND_L26 (power), M2 GND_M2 (power), M12 GND_M12 (power), M13 GND_M13 (power), M17 GND_M17 (power), M21 GND_M21 (power), M27 GND_M27 (power), M28 GND_M28 (power), N4 GND_N4 (power), N9 GND_N9 (power), N14 GND_N14 (power), N19 GND_N19 (power), N21 GND_N21 (power), N22 GND_N22 (power), N25 GND_N25 (power), N26 GND_N26 (power), P1 GND_P1 (power), P11 GND_P11 (power), P16 GND_P16 (power), P21 GND_P21 (power), P22 GND_P22 (power), P27 GND_P27 (power), P28 GND_P28 (power), R3 GND_R3 (power), R8 GND_R8 (power), R13 GND_R13 (power), R18 GND_R18 (power), R21 GND_R21 (power), R22 GND_R22 (power), R25 GND_R25 (power), R26 GND_R26 (power), T10 GND_T10 (power), T12 GNDSENSE_T12 (power), T15 GND_T15 (power), T20 GND_T20 (power), T21 GND_T21 (power), T27 GND_T27 (power), T28 GND_T28 (power), U2 GND_U2 (power), U12 GND_U12 (power), U17 GND_U17 (power), U21 GND_U21 (power), U22 GND_U22 (power), U25 GND_U25 (power), U26 GND_U26 (power), V9 GND_V9 (power), V14 GND_V14 (power), V19 GND_V19 (power), V21 GND_V21 (power), V22 GND_V22 (power), V27 GND_V27 (power), V28 GND_V28 (power), W1 GND_W1 (power), W11 GND_W11 (power), W16 GND_W16 (power), W22 GND_W22 (power), W25 GND_W25 (power), W26 GND_W26 (power), Y3 GND_Y3 (power), Y13 GND_Y13 (power), Y22 GND_Y22 (power), Y23 GND_Y23 (power), Y24 GND_Y24 (power), Y27 GND_Y27 (power), Y28 GND_Y28 (power)
part A text: 10CX105 F780 / VERSION : 2017.05.26 / PAGE : 1 of 13 / DATE : JUNE_ 2017 /
part B text: 10CX105 F780 / VERSION : 2017.05.26 / PAGE : 2 of 13 / DATE : JUNE_ 2017 /
part C text: 10CX105 F780 / VERSION : 2017.05.26 / PAGE : 3 of 13 / DATE : JUNE_ 2017 /
part D text: 10CX105 F780 / VERSION : 2017.05.26 / PAGE : 4 of 13 / DATE : JUNE_ 2017 /
part E text: 10CX105 F780 / VERSION : 2017.05.26 / PAGE : 5 of 13 / DATE : JUNE_ 2017 /
part F text: 10CX105 F780 / VERSION : 2017.05.26 / PAGE : 6 of 13 / DATE : JUNE_ 2017 /
part G text: 10CX105 F780 / VERSION : 2017.05.26 / PAGE : 7 of 13 / DATE : JUNE_ 2017 /
part H text: 10CX105 F780 / VERSION : 2017.05.26 / PAGE : 8 of 13 / DATE : JUNE_ 2017 /
part I text: 10CX105 F780 / VERSION : 2017.05.26 / PAGE : 9 of 13 / DATE : JUNE_ 2017 /
part J text: 10CX105 F780 / VERSION : 2017.05.26 / PAGE : 10 of 13 / DATE : JUNE_ 2017 /
part K text: 10CX105 F780 / VERSION : 2017.05.26 / PAGE : 11 of 13 / DATE : JUNE_ 2017 /
part L text: 10CX105 F780 / VERSION : 2017.05.26 / PAGE : 12 of 13 / DATE : JUNE_ 2017 /
part M text: 10CX105 F780 / VERSION : 2017.05.26 / PAGE : 13 of 13 / DATE : JUNE_ 2017 /

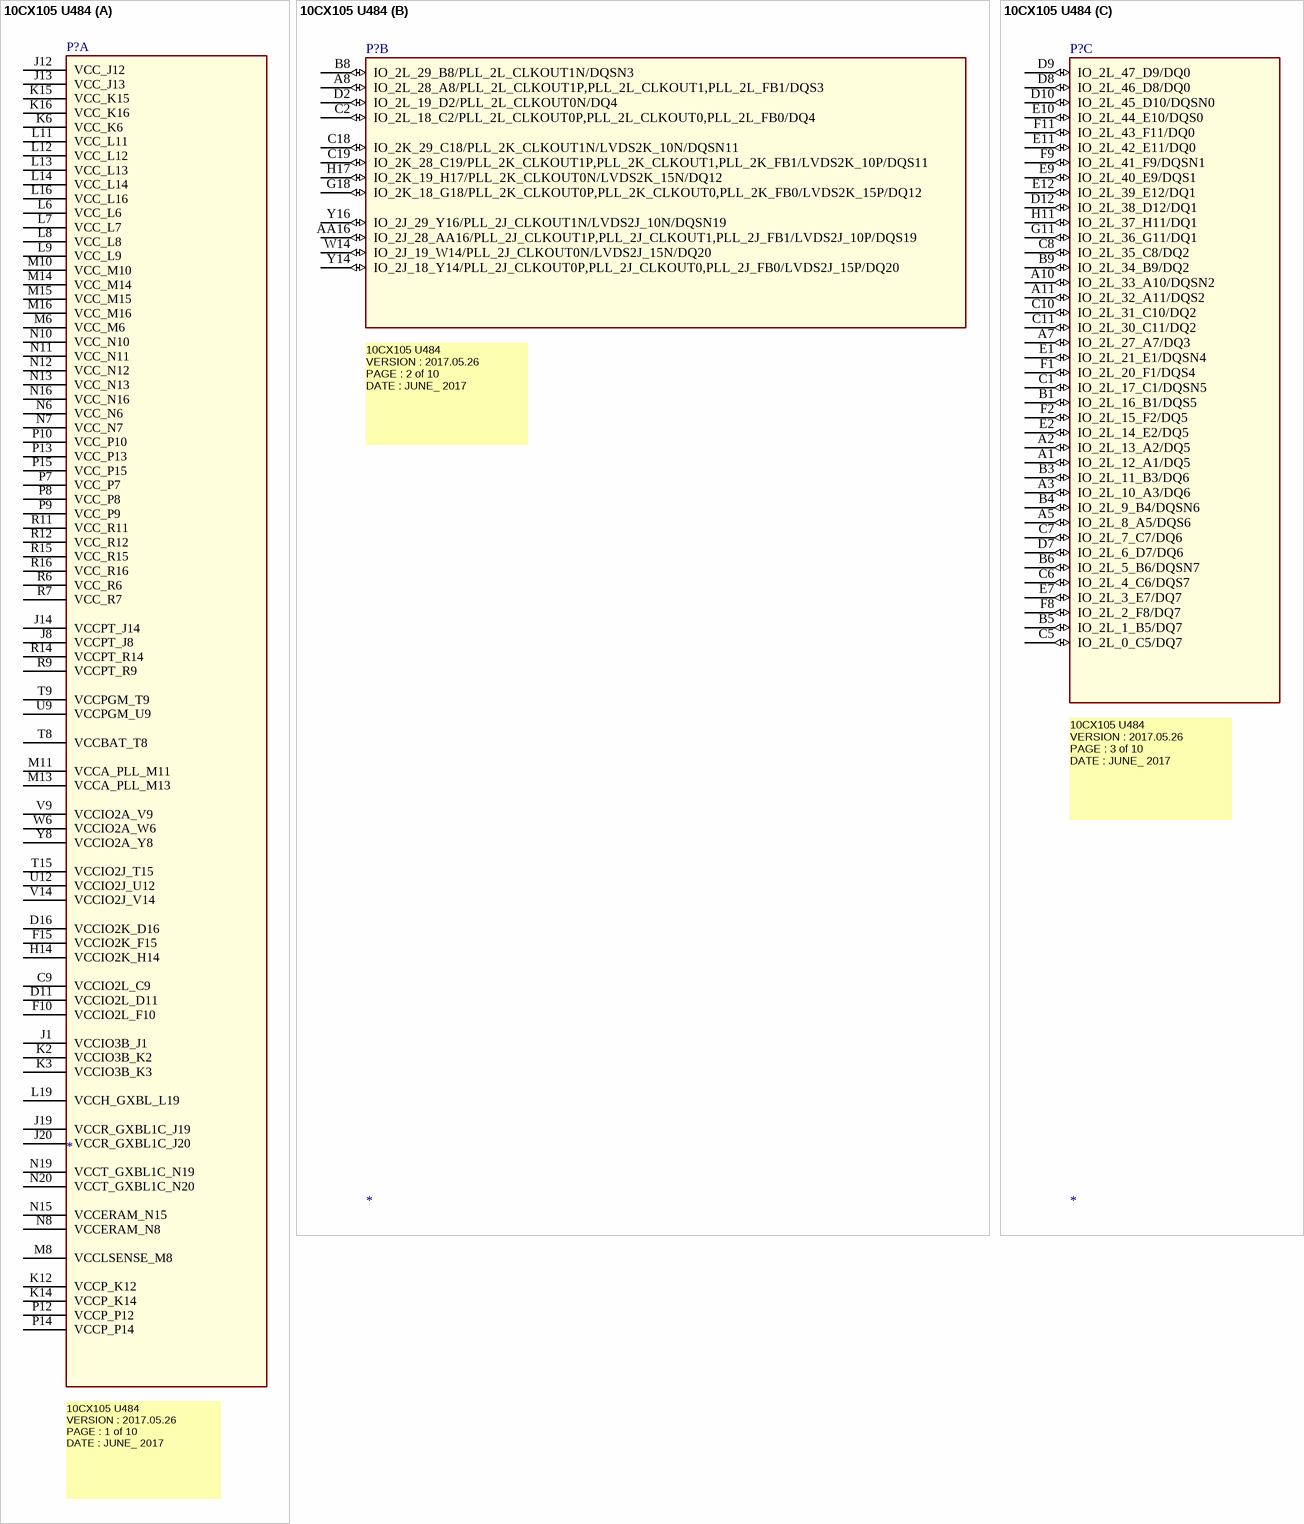
[diagram p8: symbol 10CX105 U484]

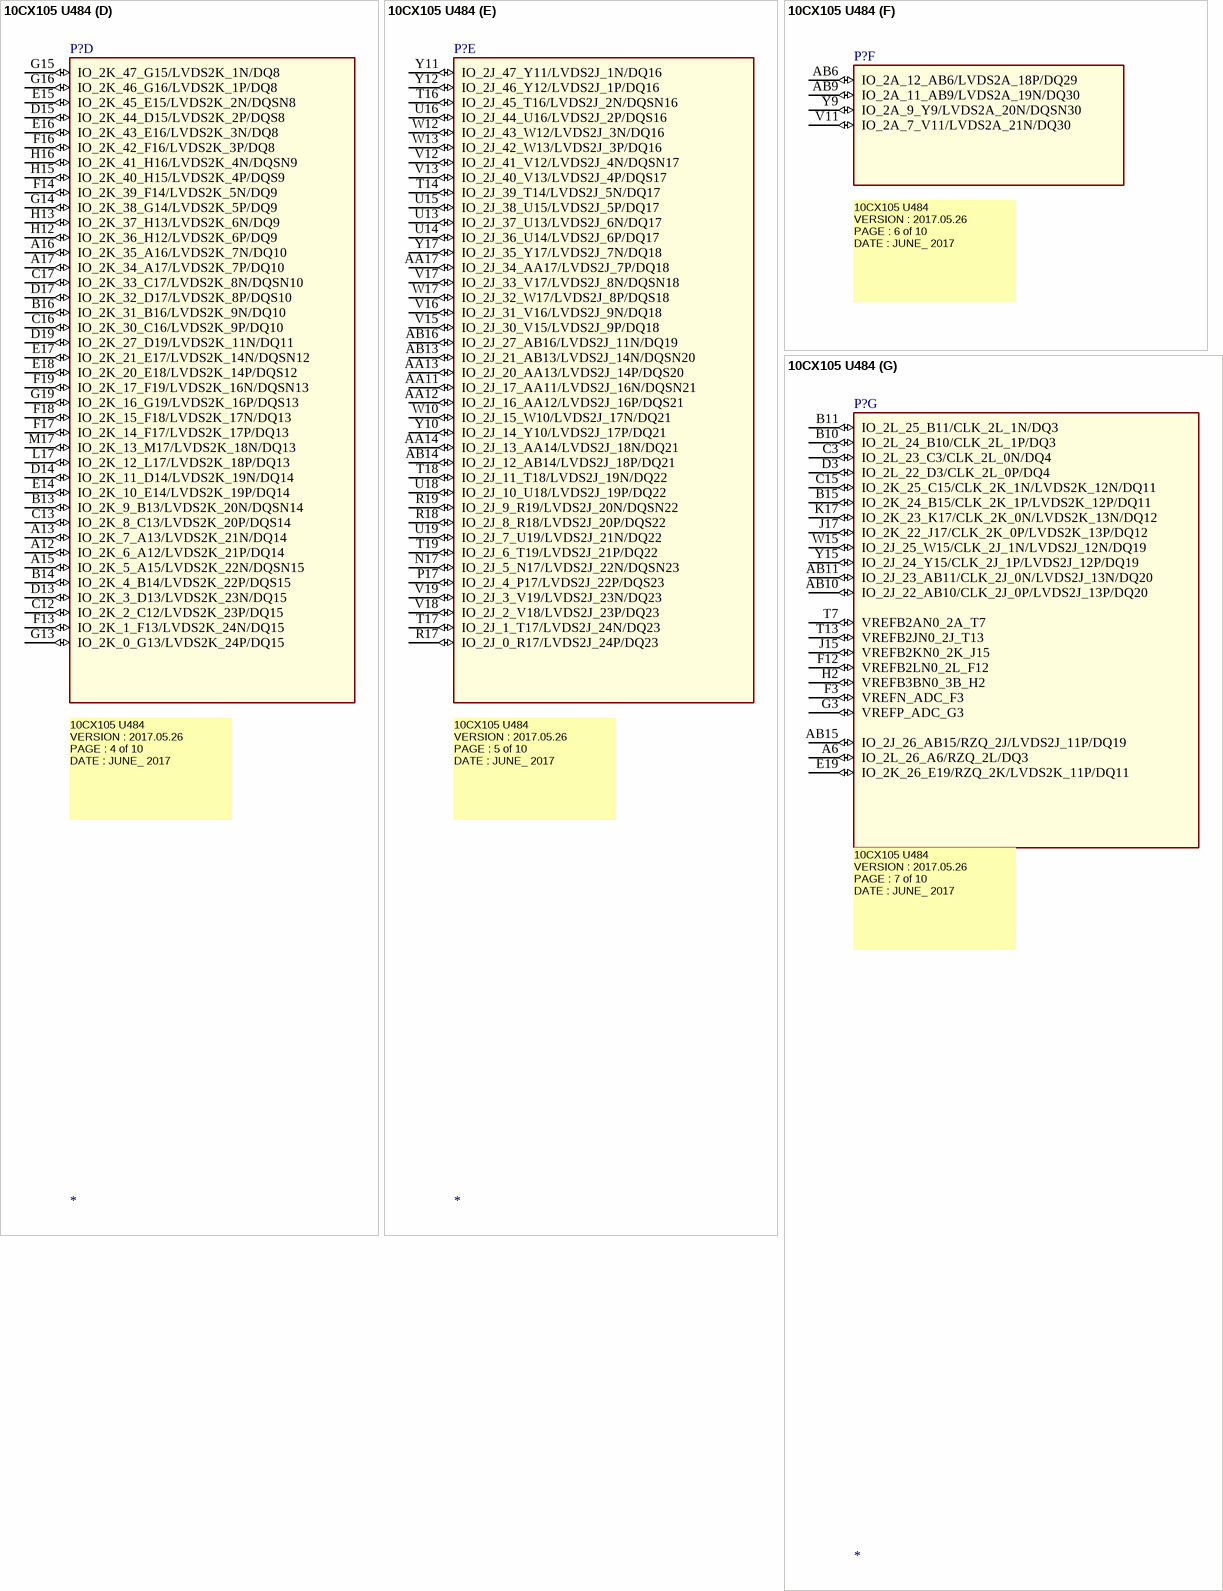
[diagram p9: symbol 10CX105 U484]

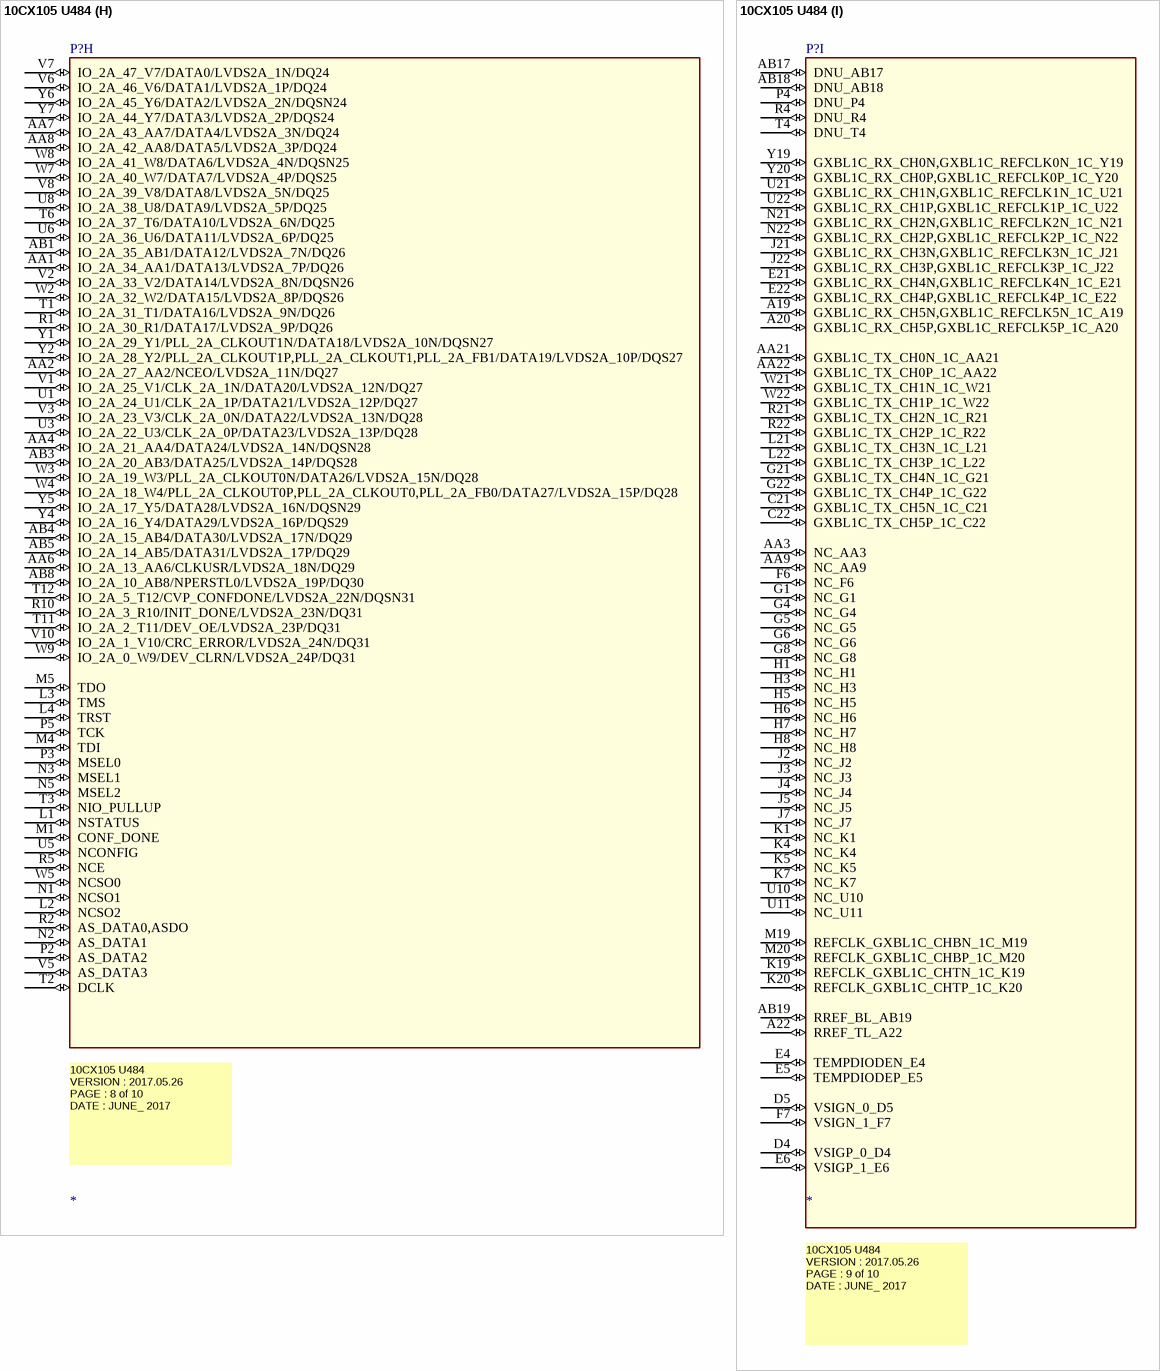
[diagram p10: symbol 10CX105 U484]

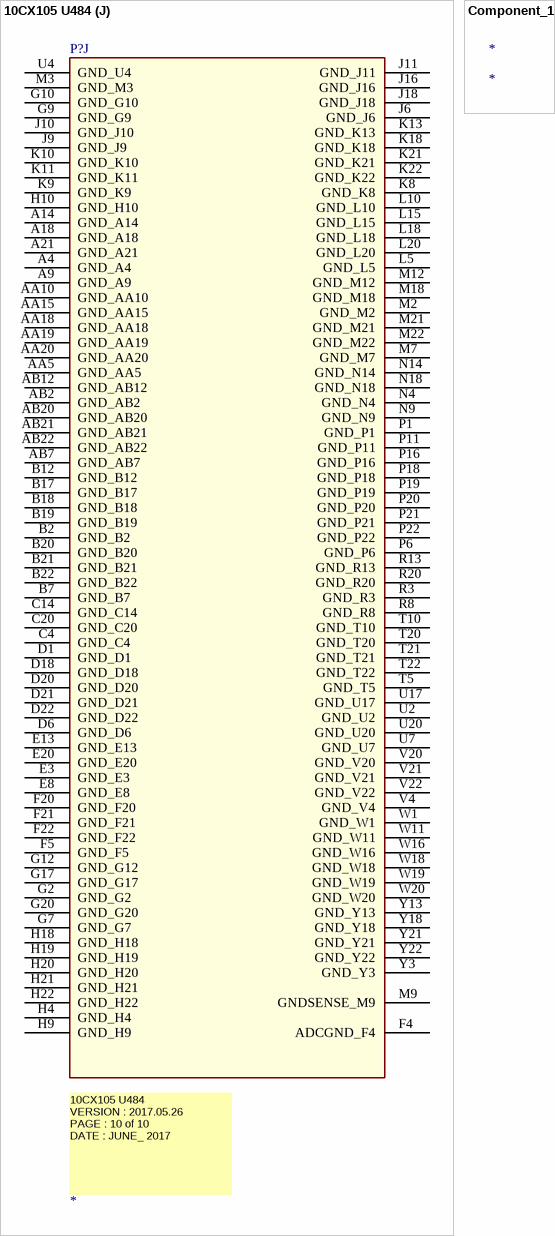
[diagram p11: symbols 10CX105 U484 to Component_1]